# Altium schematic symbol library cellular.SchLib: 27 symbols
Pins are listed as number, name and electrical type; pins without a type are passive.

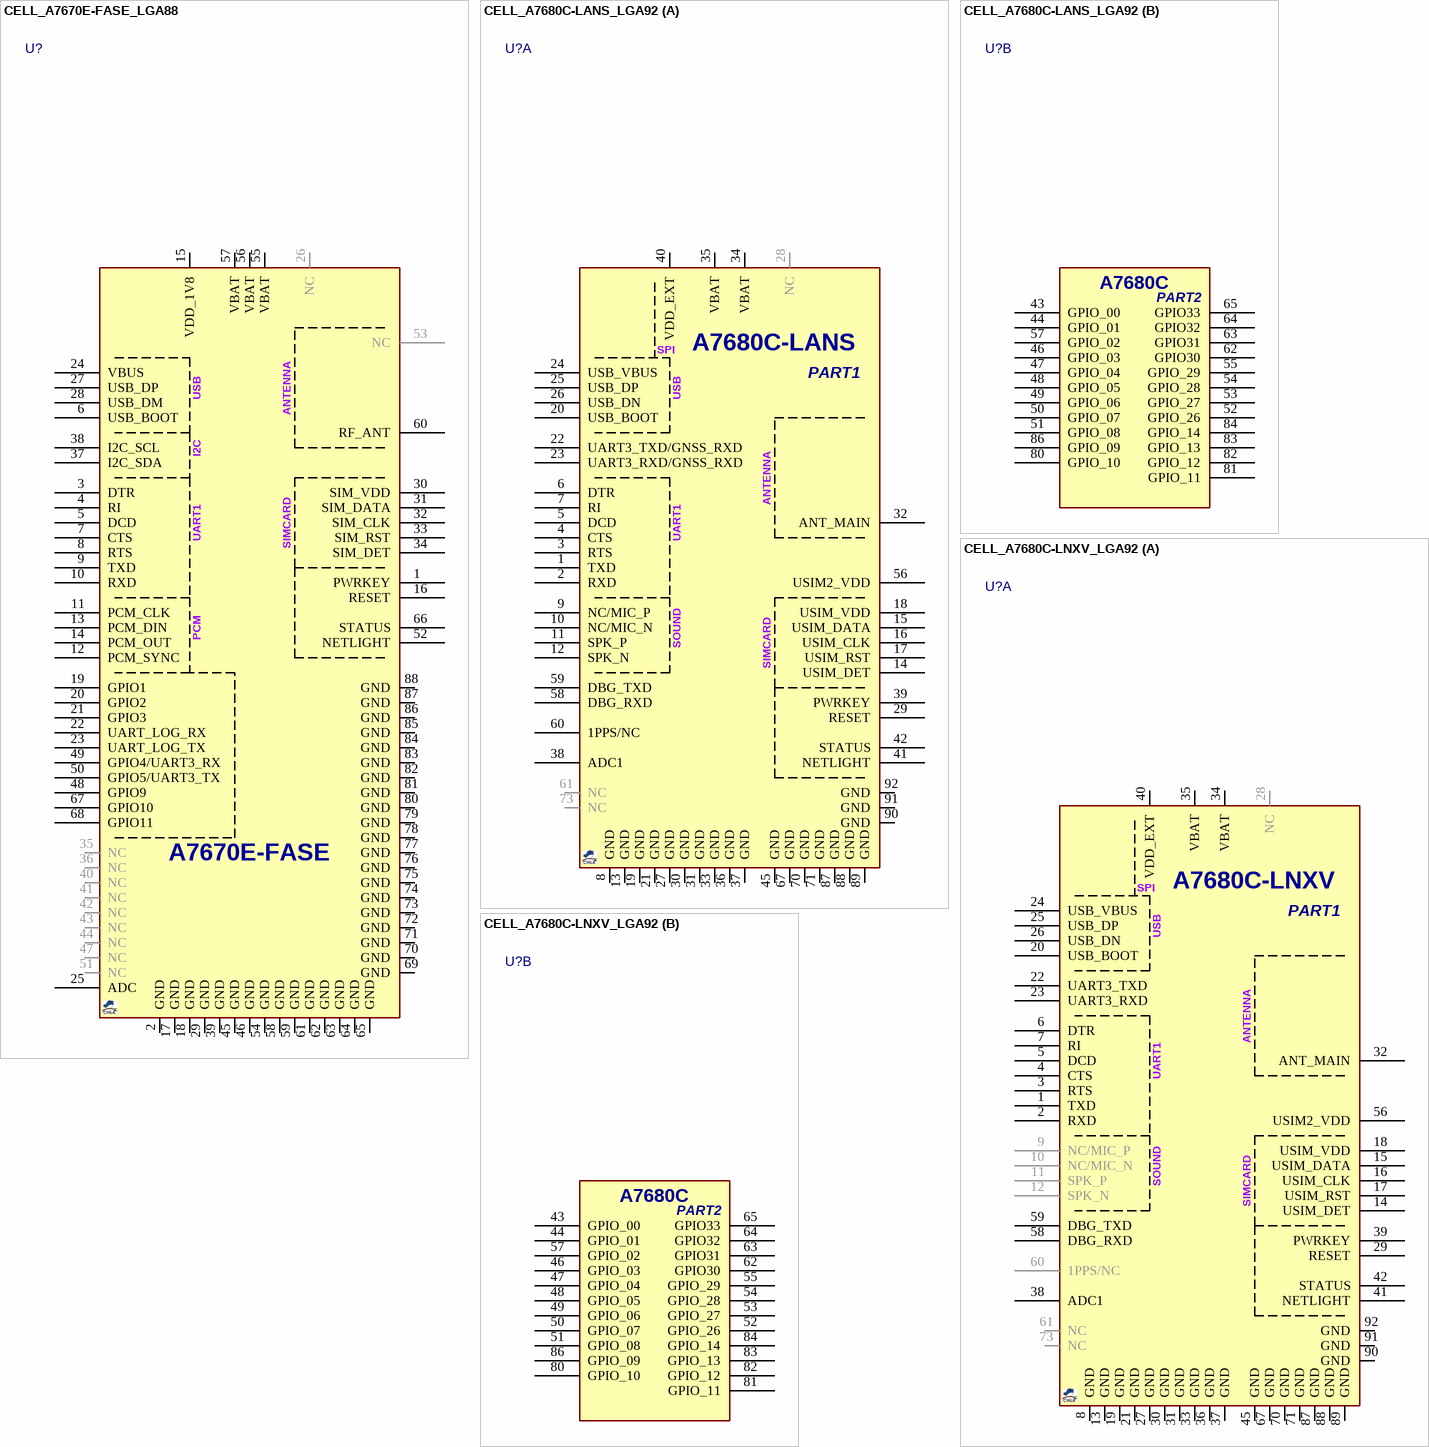
[diagram p0: symbols CELL_A7670E-FASE_LGA88 to CELL_A7680C-LNXV_LGA92]

## CELL_A7670E-FASE_LGA88
designator U?, comment A7670E-FASE  (value not drawn)
GSM, 850/900/1800/LTE, CAT1, UART/USB, 3.4~4.2V; MANF: SIMCom; PARAM2: 3.4~4.2VCC, 1.8/3VSIM; MANF_P#: A7670E-FASE; PARAM: GSM, 850/900/1800/LTE, CAT1, UART/USB; VALUE: A7670E-FASE; PACKAGE: LGA-88 24x24x3mm
footprint CELL_LGA88 (LGA-68+20, 24x24x3mm)
pins: 1 PWRKEY, 2 GND, 3 DTR, 4 RI, 5 DCD, 6 USB_BOOT, 7 CTS, 8 RTS, 9 TXD, 10 RXD, 11 PCM_CLK, 12 PCM_SYNC, 13 PCM_DIN, 14 PCM_OUT, 15 VDD_1V8, 16 RESET, 17 GND, 18 GND, 19 GPIO1, 20 GPIO2, 21 GPIO3, 22 UART_LOG_RX, 23 UART_LOG_TX, 24 VBUS, 25 ADC, 26 NC, 27 USB_DP, 28 USB_DM, 29 GND, 30 SIM_VDD, 31 SIM_DATA, 32 SIM_CLK, 33 SIM_RST, 34 SIM_DET, 35 NC, 36 NC, 37 I2C_SDA, 38 I2C_SCL, 39 GND, 40 NC, 41 NC, 42 NC, 43 NC, 44 NC, 45 GND, 46 GND, 47 NC, 48 GPIO9, 49 GPIO4/UART3_RX, 50 GPIO5/UART3_TX, 51 NC, 52 NETLIGHT, 53 NC, 54 GND, 55 VBAT, 56 VBAT, 57 VBAT, 58 GND, 59 GND, 60 RF_ANT, 61 GND, 62 GND, 63 GND, 64 GND, 65 GND, 66 STATUS, 67 GPIO10, 68 GPIO11, 69 GND, 70 GND, 71 GND, 72 GND, 73 GND, 74 GND, 75 GND, 76 GND, 77 GND, 78 GND, 79 GND, 80 GND, 81 GND, 82 GND, 83 GND, 84 GND, 85 GND, 86 GND, 87 GND, 88 GND
text: USB; ANTENNA; I2C; UART1; SIMCARD; PCM

## CELL_A7680C-LANS_LGA92
designator U?, comment A7680C  (value not drawn)
GSM, 850/900/1800/LTE, CAT1, UART/USB, 3.4~4.2V, LCC-42 + LGA-50; MANF: SIMCom; MANF_P#: A7680C-LANS; PARAM2: 3.4~4.2VCC, 1.8/3VSIM; PARAM: GSM, 850/900/1800/LTE, CAT1, UART/USB; VALUE: A7680C; PACKAGE: LGA-92 17.6x15.7x2.3mm
footprint CELL_LGA92_A7680C (LCC-42 17.6x15.7x2.3mm)
part A pins: 1 TXD, 2 RXD, 3 RTS, 4 CTS, 5 DCD, 6 DTR, 7 RI, 8 GND, 9 NC/MIC_P, 10 NC/MIC_N, 11 SPK_P, 12 SPK_N, 13 GND, 14 USIM_DET, 15 USIM_DATA, 16 USIM_CLK, 17 USIM_RST, 18 USIM_VDD, 19 GND, 20 USB_BOOT, 21 GND, 22 UART3_TXD/GNSS_RXD, 23 UART3_RXD/GNSS_RXD, 24 USB_VBUS, 25 USB_DP, 26 USB_DN, 27 GND, 28 NC, 29 RESET, 30 GND, 31 GND, 32 ANT_MAIN, 33 GND, 34 VBAT, 35 VBAT, 36 GND, 37 GND, 38 ADC1, 39 PWRKEY, 40 VDD_EXT, 41 NETLIGHT, 42 STATUS, 45 GND, 56 USIM2_VDD, 58 DBG_RXD, 59 DBG_TXD, 60 1PPS/NC, 61 NC, 67 GND, 70 GND, 71 GND, 73 NC, 87 GND, 88 GND, 89 GND, 90 GND, 91 GND, 92 GND
part B pins: 43 GPIO_00, 44 GPIO_01, 46 GPIO_03, 47 GPIO_04, 48 GPIO_05, 49 GPIO_06, 50 GPIO_07, 51 GPIO_08, 52 GPIO_26, 53 GPIO_27, 54 GPIO_28, 55 GPIO_29, 57 GPIO_02, 62 GPIO30, 63 GPIO31, 64 GPIO32, 65 GPIO33, 80 GPIO_10, 81 GPIO_11, 82 GPIO_12, 83 GPIO_13, 84 GPIO_14, 86 GPIO_09
part A text: SPI; PART1; USB; ANTENNA; UART1; SOUND; SIMCARD
part B text: PART2

## CELL_A7680C-LNXV_LGA92
designator U?, comment A7680C  (value not drawn)
GSM, 850/900/1800/LTE, CAT1, UART/USB, 3.4~4.2V, LCC-42 + LGA-50; MANF: SIMCom; MANF_P#: A7680C-LNXV; PARAM2: 3.4~4.2VCC, 1.8/3VSIM; PARAM: GSM, 850/900/1800/LTE, CAT1, UART/USB; VALUE: A7680C; PACKAGE: LGA-92 17.6x15.7x2.3mm
footprint CELL_LGA92_A7680C (LCC-42 17.6x15.7x2.3mm)
part A pins: 1 TXD, 2 RXD, 3 RTS, 4 CTS, 5 DCD, 6 DTR, 7 RI, 8 GND, 9 NC/MIC_P, 10 NC/MIC_N, 11 SPK_P, 12 SPK_N, 13 GND, 14 USIM_DET, 15 USIM_DATA, 16 USIM_CLK, 17 USIM_RST, 18 USIM_VDD, 19 GND, 20 USB_BOOT, 21 GND, 22 UART3_TXD, 23 UART3_RXD, 24 USB_VBUS, 25 USB_DP, 26 USB_DN, 27 GND, 28 NC, 29 RESET, 30 GND, 31 GND, 32 ANT_MAIN, 33 GND, 34 VBAT, 35 VBAT, 36 GND, 37 GND, 38 ADC1, 39 PWRKEY, 40 VDD_EXT, 41 NETLIGHT, 42 STATUS, 45 GND, 56 USIM2_VDD, 58 DBG_RXD, 59 DBG_TXD, 60 1PPS/NC, 61 NC, 67 GND, 70 GND, 71 GND, 73 NC, 87 GND, 88 GND, 89 GND, 90 GND, 91 GND, 92 GND
part B pins: 43 GPIO_00, 44 GPIO_01, 46 GPIO_03, 47 GPIO_04, 48 GPIO_05, 49 GPIO_06, 50 GPIO_07, 51 GPIO_08, 52 GPIO_26, 53 GPIO_27, 54 GPIO_28, 55 GPIO_29, 57 GPIO_02, 62 GPIO30, 63 GPIO31, 64 GPIO32, 65 GPIO33, 80 GPIO_10, 81 GPIO_11, 82 GPIO_12, 83 GPIO_13, 84 GPIO_14, 86 GPIO_09
part A text: SPI; PART1; USB; ANTENNA; UART1; SOUND; SIMCARD
part B text: PART2

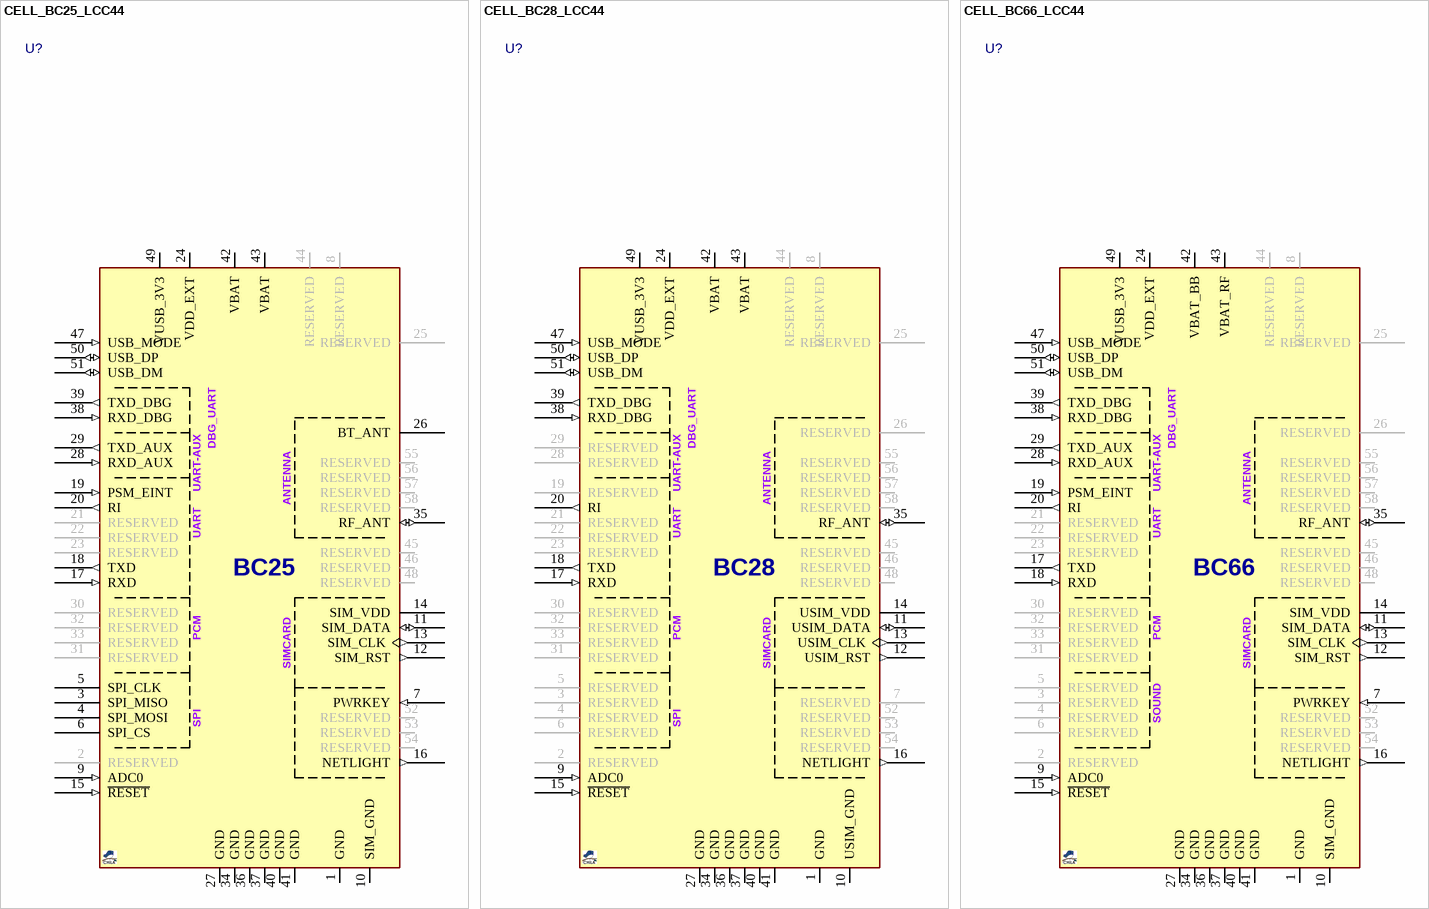
[diagram p1: symbols CELL_BC25_LCC44 to CELL_BC66_LCC44]

## CELL_BC25_LCC44
designator U?, comment BC25  (value not drawn)
NB-IoT, 3.2~4.2V; MANF: QUECTEL; MANF_P#: BC25; PARAM2: 3.2~4.2V; PARAM: NB-IoT; VALUE: BC25; PACKAGE: LCC-44 + 14LGA
footprint CELL_LCC44LGA14 (LCC-44 + LGA-14, 17.7x15.8x2.4mm)
pins: 1 GND (power), 2 RESERVED, 3 SPI_MISO, 4 SPI_MOSI, 5 SPI_CLK, 6 SPI_CS, 7 PWRKEY (in), 8 RESERVED, 9 ADC0 (in), 10 SIM_GND (power), 11 SIM_DATA (io), 12 SIM_RST (out), 13 SIM_CLK (out), 14 SIM_VDD (power), 15 ~{RESET} (in), 16 NETLIGHT (out), 17 RXD (in), 18 TXD (out), 19 PSM_EINT (in), 20 RI (out), 21 RESERVED, 22 RESERVED, 23 RESERVED, 24 VDD_EXT (power), 25 RESERVED, 26 BT_ANT, 27 GND (power), 28 RXD_AUX (in), 29 TXD_AUX (out), 30 RESERVED, 31 RESERVED, 32 RESERVED, 33 RESERVED, 34 GND (power), 35 RF_ANT (io), 36 GND (power), 37 GND (power), 38 RXD_DBG (in), 39 TXD_DBG (out), 40 GND (power), 41 GND (power), 42 VBAT (power), 43 VBAT (power), 44 RESERVED, 45 RESERVED, 46 RESERVED, 47 USB_MODE (in), 48 RESERVED, 49 VUSB_3V3 (power), 50 USB_DP (io), 51 USB_DM (io), 52 RESERVED, 53 RESERVED, 54 RESERVED, 55 RESERVED, 56 RESERVED, 57 RESERVED, 58 RESERVED
text: DBG_UART; UART-AUX; ANTENNA; UART; PCM; SIMCARD; SPI

## CELL_BC28_LCC44
designator U?, comment BC25  (value not drawn)
NB-IoT, 3.2~4.2V; MANF: QUECTEL; MANF_P#: BC25; PARAM2: 3.2~4.2V; PARAM: NB-IoT; VALUE: BC25; PACKAGE: LCC-44 + 14LGA
footprint CELL_LCC44LGA14 (LCC-44 + LGA-14, 17.7x15.8x2.4mm)
pins: 1 GND (power), 2 RESERVED, 3 RESERVED, 4 RESERVED, 5 RESERVED, 6 RESERVED, 7 RESERVED, 8 RESERVED, 9 ADC0 (in), 10 USIM_GND (power), 11 USIM_DATA (io), 12 USIM_RST (out), 13 USIM_CLK (out), 14 USIM_VDD (power), 15 ~{RESET} (in), 16 NETLIGHT (out), 17 RXD (in), 18 TXD (out), 19 RESERVED, 20 RI (out), 21 RESERVED, 22 RESERVED, 23 RESERVED, 24 VDD_EXT (power), 25 RESERVED, 26 RESERVED, 27 GND (power), 28 RESERVED, 29 RESERVED, 30 RESERVED, 31 RESERVED, 32 RESERVED, 33 RESERVED, 34 GND (power), 35 RF_ANT (io), 36 GND (power), 37 GND (power), 38 RXD_DBG (in), 39 TXD_DBG (out), 40 GND (power), 41 GND (power), 42 VBAT (power), 43 VBAT (power), 44 RESERVED, 45 RESERVED, 46 RESERVED, 47 USB_MODE (in), 48 RESERVED, 49 VUSB_3V3 (power), 50 USB_DP (io), 51 USB_DM (io), 52 RESERVED, 53 RESERVED, 54 RESERVED, 55 RESERVED, 56 RESERVED, 57 RESERVED, 58 RESERVED
text: DBG_UART; UART-AUX; ANTENNA; UART; BC28; PCM; SIMCARD; SPI

## CELL_BC66_LCC44
designator U?, comment BC66  (value not drawn)
NB-IoT, 3.3V; MANF: QUECTEL; MANF_P#: BC66; PARAM2: 3.3v; PARAM: NB-IoT; VALUE: BC66; PACKAGE: LCC-44 + 14LGA
footprint CELL_LCC44LGA14 (LCC-44 + LGA-14, 17.7x15.8x2.4mm)
pins: 1 GND (power), 2 RESERVED, 3 RESERVED, 4 RESERVED, 5 RESERVED, 6 RESERVED, 7 PWRKEY (in), 8 RESERVED, 9 ADC0 (in), 10 SIM_GND (power), 11 SIM_DATA (io), 12 SIM_RST (out), 13 SIM_CLK (out), 14 SIM_VDD (power), 15 ~{RESET} (in), 16 NETLIGHT (out), 17 TXD (out), 18 RXD (in), 19 PSM_EINT (in), 20 RI (out), 21 RESERVED, 22 RESERVED, 23 RESERVED, 24 VDD_EXT (power), 25 RESERVED, 26 RESERVED, 27 GND (power), 28 RXD_AUX (in), 29 TXD_AUX (out), 30 RESERVED, 31 RESERVED, 32 RESERVED, 33 RESERVED, 34 GND (power), 35 RF_ANT (io), 36 GND (power), 37 GND (power), 38 RXD_DBG (in), 39 TXD_DBG (out), 40 GND (power), 41 GND (power), 42 VBAT_BB (power), 43 VBAT_RF (power), 44 RESERVED, 45 RESERVED, 46 RESERVED, 47 USB_MODE (in), 48 RESERVED, 49 VUSB_3V3 (power), 50 USB_DP (io), 51 USB_DM (io), 52 RESERVED, 53 RESERVED, 54 RESERVED, 55 RESERVED, 56 RESERVED, 57 RESERVED, 58 RESERVED
text: DBG_UART; UART-AUX; ANTENNA; UART; PCM; SIMCARD; SOUND

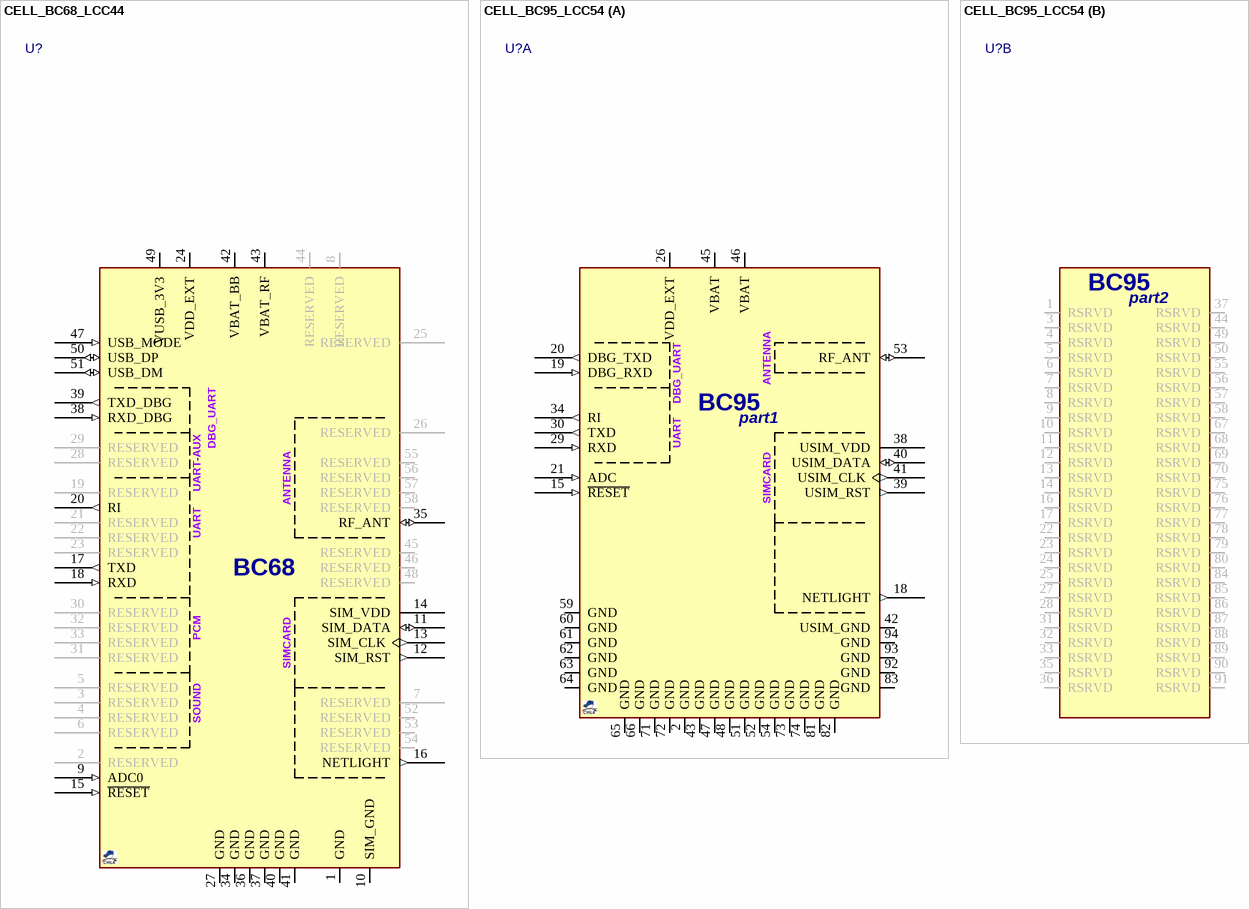
[diagram p2: symbols CELL_BC68_LCC44 to CELL_BC95_LCC54]

## CELL_BC68_LCC44
designator U?, comment BC68  (value not drawn)
NB-IoT, 3.3V; MANF: QUECTEL; MANF_P#: BC68; PARAM2: 3.3v; PARAM: NB-IoT; VALUE: BC68; PACKAGE: LCC-44 + 14LGA
footprint CELL_LCC44LGA14 (LCC-44 + LGA-14, 17.7x15.8x2.4mm)
pins: 1 GND (power), 2 RESERVED, 3 RESERVED, 4 RESERVED, 5 RESERVED, 6 RESERVED, 7 RESERVED, 8 RESERVED, 9 ADC0 (in), 10 SIM_GND (power), 11 SIM_DATA (io), 12 SIM_RST (out), 13 SIM_CLK (out), 14 SIM_VDD (power), 15 ~{RESET} (in), 16 NETLIGHT (out), 17 TXD (out), 18 RXD (in), 19 RESERVED, 20 RI (out), 21 RESERVED, 22 RESERVED, 23 RESERVED, 24 VDD_EXT (power), 25 RESERVED, 26 RESERVED, 27 GND (power), 28 RESERVED, 29 RESERVED, 30 RESERVED, 31 RESERVED, 32 RESERVED, 33 RESERVED, 34 GND (power), 35 RF_ANT (io), 36 GND (power), 37 GND (power), 38 RXD_DBG (in), 39 TXD_DBG (out), 40 GND (power), 41 GND (power), 42 VBAT_BB (power), 43 VBAT_RF (power), 44 RESERVED, 45 RESERVED, 46 RESERVED, 47 USB_MODE (in), 48 RESERVED, 49 VUSB_3V3 (power), 50 USB_DP (io), 51 USB_DM (io), 52 RESERVED, 53 RESERVED, 54 RESERVED, 55 RESERVED, 56 RESERVED, 57 RESERVED, 58 RESERVED
text: DBG_UART; UART-AUX; ANTENNA; UART; PCM; SIMCARD; SOUND

## CELL_BC95_LCC54
designator U?, comment BC95  (value not drawn)
NB-IoT, 3.1~4.2V; MANF: QUECTEL; MANF_P#: BC95; PARAM2: 3.1~4.2V; PARAM: NB-IoT; VALUE: BC95; PACKAGE: LCC-54 + 40LGA
footprint CELL_LCC54LGA40 (LCC-44 + LGA-14, 23.6x19.9x2.2mm)
part A pins: 2 GND (power), 15 ~{RESET} (in), 18 NETLIGHT (out), 19 DBG_RXD (in), 20 DBG_TXD (out), 21 ADC (in), 26 VDD_EXT (power), 29 RXD (in), 30 TXD (out), 34 RI (out), 38 USIM_VDD (power), 39 USIM_RST (out), 40 USIM_DATA (io), 41 USIM_CLK (out), 42 USIM_GND (power), 43 GND (power), 45 VBAT (power), 46 VBAT (power), 47 GND (power), 48 GND (power), 51 GND (power), 52 GND (power), 53 RF_ANT (io), 54 GND (power), 59 GND (power), 60 GND (power), 61 GND (power), 62 GND (power), 63 GND (power), 64 GND (power), 65 GND (power), 66 GND (power), 71 GND (power), 72 GND (power), 73 GND (power), 74 GND (power), 81 GND (power), 82 GND (power), 83 GND (power), 92 GND (power), 93 GND (power), 94 GND (power)
part B pins: 1 RSRVD, 3 RSRVD, 4 RSRVD, 5 RSRVD, 6 RSRVD, 7 RSRVD, 8 RSRVD, 9 RSRVD, 10 RSRVD, 11 RSRVD, 12 RSRVD, 13 RSRVD, 14 RSRVD, 16 RSRVD, 17 RSRVD, 22 RSRVD, 23 RSRVD, 24 RSRVD, 25 RSRVD, 27 RSRVD, 28 RSRVD, 31 RSRVD, 32 RSRVD, 33 RSRVD, 35 RSRVD, 36 RSRVD, 37 RSRVD, 44 RSRVD, 49 RSRVD, 50 RSRVD, 55 RSRVD, 56 RSRVD, 57 RSRVD, 58 RSRVD, 67 RSRVD, 68 RSRVD, 69 RSRVD, 70 RSRVD, 75 RSRVD, 76 RSRVD, 77 RSRVD, 78 RSRVD, 79 RSRVD, 80 RSRVD, 84 RSRVD, 85 RSRVD, 86 RSRVD, 87 RSRVD, 88 RSRVD, 89 RSRVD, 90 RSRVD, 91 RSRVD
part A text: ANTENNA; DBG_UART; part1; UART; SIMCARD
part B text: part2

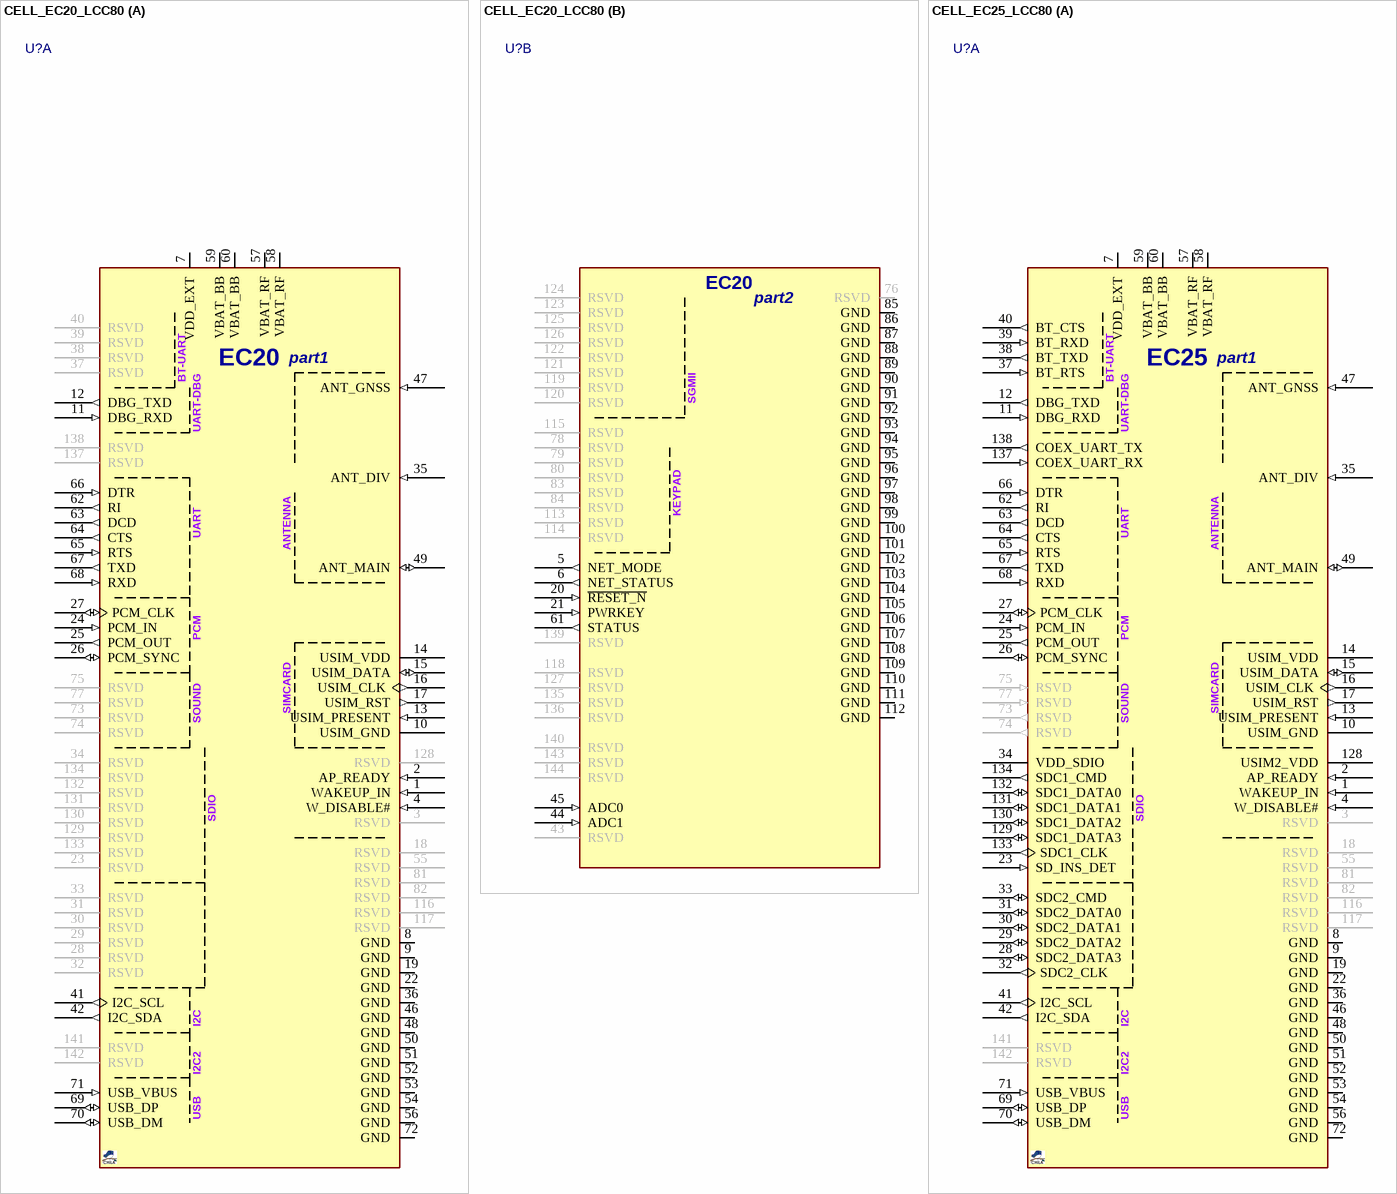
[diagram p3: symbols CELL_EC20_LCC80 to CELL_EC25_LCC80]

## CELL_EC20_LCC80
designator U?, comment EC20  (value not drawn)
LTE, GSM, GNSS, CAT3 (100Mbps), 3.3~4.3V; MANF: QUECTEL; PARAM: LTE, GSM, GNSS, CAT4 (100Mbps); MANF_P#: EC20; PARAM2: 3.3~4.3V; VALUE: EC20; PACKAGE: LCC80 + LGA64
footprint CELL_LCC80LGA64_EC25 (LCC-80 + LGA-64 32x29x2.4mm)
part A pins: 1 WAKEUP_IN (in), 2 AP_READY (in), 3 RSVD, 4 W_DISABLE# (in), 7 VDD_EXT (power), 8 GND (power), 9 GND (power), 10 USIM_GND (power), 11 DBG_RXD (in), 12 DBG_TXD (out), 13 USIM_PRESENT (in), 14 USIM_VDD (power), 15 USIM_DATA (io), 16 USIM_CLK (out), 17 USIM_RST (out), 18 RSVD, 19 GND (power), 22 GND (power), 23 RSVD, 24 PCM_IN (in), 25 PCM_OUT (out), 26 PCM_SYNC (io), 27 PCM_CLK (io), 28 RSVD, 29 RSVD, 30 RSVD, 31 RSVD, 32 RSVD, 33 RSVD, 34 RSVD, 35 ANT_DIV (in), 36 GND (power), 37 RSVD, 38 RSVD, 39 RSVD, 40 RSVD, 41 I2C_SCL (out), 42 I2C_SDA (out), 46 GND (power), 47 ANT_GNSS (in), 48 GND (power), 49 ANT_MAIN (io), 50 GND (power), 51 GND (power), 52 GND (power), 53 GND (power), 54 GND (power), 55 RSVD, 56 GND (power), 57 VBAT_RF (power), 58 VBAT_RF (power), 59 VBAT_BB (power), 60 VBAT_BB (power), 62 RI (out), 63 DCD (out), 64 CTS (out), 65 RTS (in), 66 DTR (in), 67 TXD (out), 68 RXD (in), 69 USB_DP (io), 70 USB_DM (io), 71 USB_VBUS (in), 72 GND (power), 73 RSVD, 74 RSVD, 75 RSVD, 77 RSVD, 81 RSVD, 82 RSVD, 116 RSVD, 117 RSVD, 128 RSVD, 129 RSVD, 130 RSVD, 131 RSVD, 132 RSVD, 133 RSVD, 134 RSVD, 137 RSVD, 138 RSVD, 141 RSVD, 142 RSVD
part B pins: 5 NET_MODE (out), 6 NET_STATUS (out), 20 ~{RESET_N} (in), 21 PWRKEY (in), 43 RSVD, 44 ADC1 (in), 45 ADC0 (in), 61 STATUS (out), 76 RSVD, 78 RSVD, 79 RSVD, 80 RSVD, 83 RSVD, 84 RSVD, 85 GND (power), 86 GND (power), 87 GND (power), 88 GND (power), 89 GND (power), 90 GND (power), 91 GND (power), 92 GND (power), 93 GND (power), 94 GND (power), 95 GND (power), 96 GND (power), 97 GND (power), 98 GND (power), 99 GND (power), 100 GND (power), 101 GND (power), 102 GND (power), 103 GND (power), 104 GND (power), 105 GND (power), 106 GND (power), 107 GND (power), 108 GND (power), 109 GND (power), 110 GND (power), 111 GND (power), 112 GND (power), 113 RSVD, 114 RSVD, 115 RSVD, 118 RSVD, 119 RSVD, 120 RSVD, 121 RSVD, 122 RSVD, 123 RSVD, 124 RSVD, 125 RSVD, 126 RSVD, 127 RSVD, 135 RSVD, 136 RSVD, 139 RSVD, 140 RSVD, 143 RSVD, 144 RSVD
part A text: BT-UART; part1; UART-DBG; UART; ANTENNA; PCM; SIMCARD; SOUND; SDIO; I2C; I2C2; USB
part B text: part2; SGMII; KEYPAD

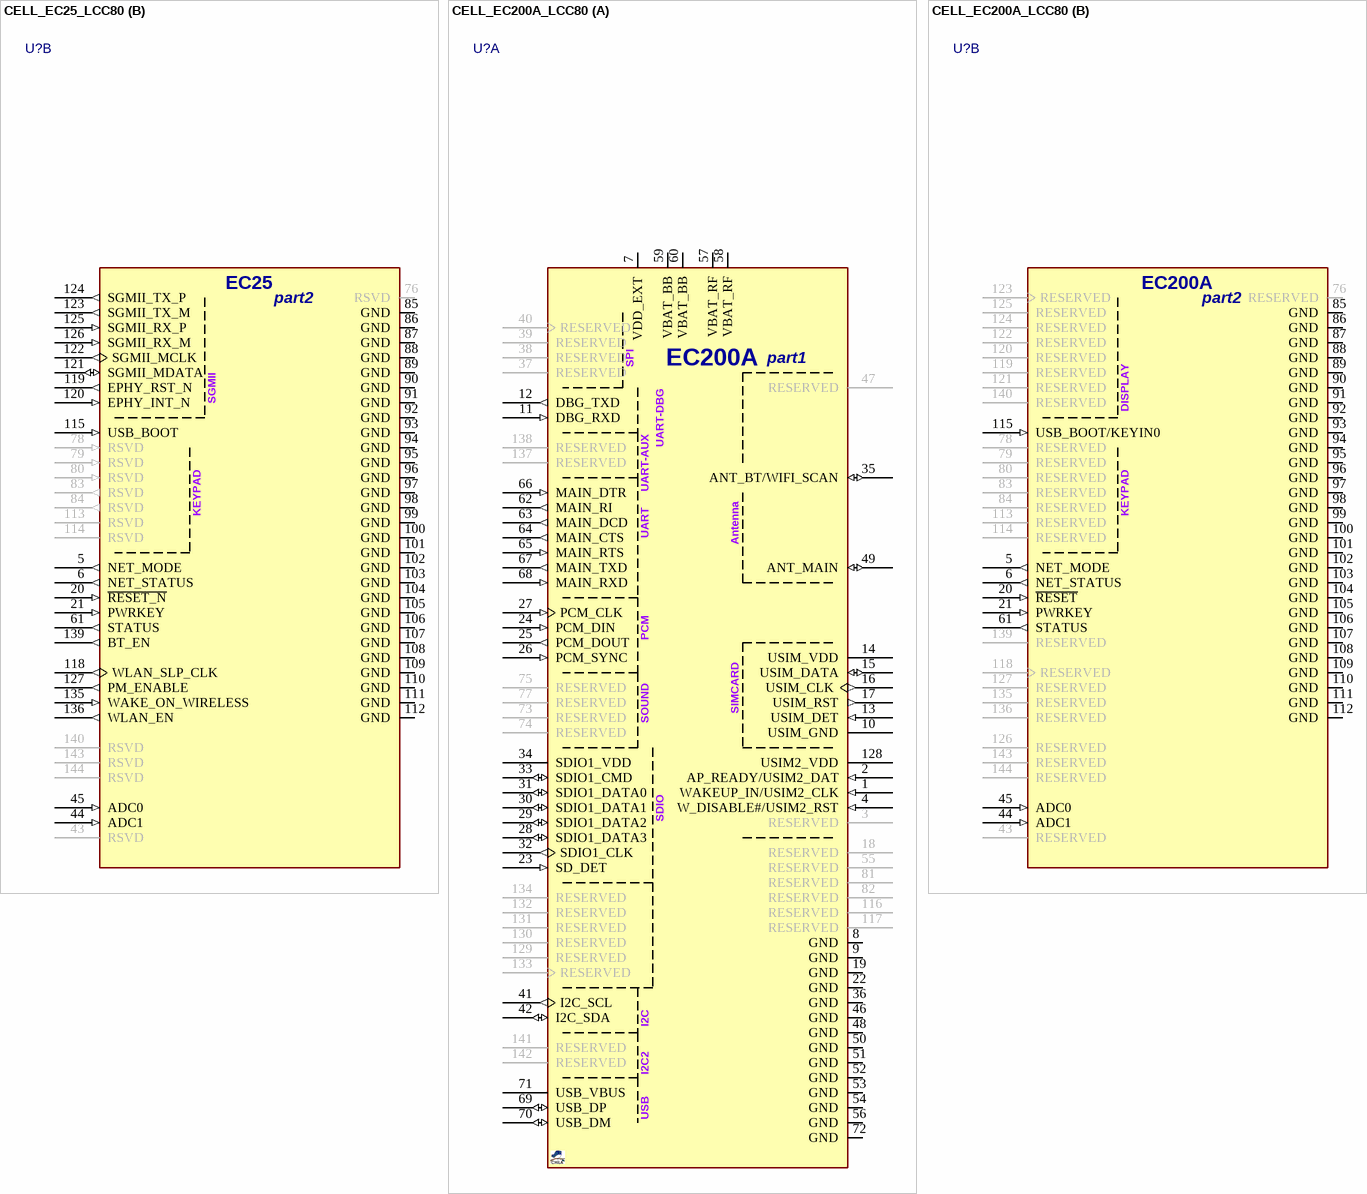
[diagram p4: symbols CELL_EC25_LCC80 to CELL_EC200A_LCC80]

## CELL_EC25_LCC80
designator U?, comment EC25  (value not drawn)
LTE, GSM, GNSS, CAT4 (150Mbps), 3.3~4.3V; MANF: QUECTEL; MANF_P#: EC25; PARAM2: 3.3~4.3V; PARAM: LTE, GSM, GNSS, CAT4 (150Mbps); VALUE: EC25; PACKAGE: LCC80 + LGA64
footprint CELL_LCC80LGA64_EC25 (LCC-80 + LGA-64 32x29x2.4mm)
part A pins: 1 WAKEUP_IN (in), 2 AP_READY (in), 3 RSVD, 4 W_DISABLE# (in), 7 VDD_EXT (power), 8 GND (power), 9 GND (power), 10 USIM_GND (power), 11 DBG_RXD (in), 12 DBG_TXD (out), 13 USIM_PRESENT (in), 14 USIM_VDD (power), 15 USIM_DATA (io), 16 USIM_CLK (out), 17 USIM_RST (out), 18 RSVD, 19 GND (power), 22 GND (power), 23 SD_INS_DET (in), 24 PCM_IN (in), 25 PCM_OUT (out), 26 PCM_SYNC (io), 27 PCM_CLK (io), 28 SDC2_DATA3 (io), 29 SDC2_DATA2 (io), 30 SDC2_DATA1 (io), 31 SDC2_DATA0 (io), 32 SDC2_CLK (out), 33 SDC2_CMD (io), 34 VDD_SDIO (power), 35 ANT_DIV (in), 36 GND (power), 37 BT_RTS (in), 38 BT_TXD (out), 39 BT_RXD (in), 40 BT_CTS (out), 41 I2C_SCL (out), 42 I2C_SDA (out), 46 GND (power), 47 ANT_GNSS (in), 48 GND (power), 49 ANT_MAIN (io), 50 GND (power), 51 GND (power), 52 GND (power), 53 GND (power), 54 GND (power), 55 RSVD, 56 GND (power), 57 VBAT_RF (power), 58 VBAT_RF (power), 59 VBAT_BB (power), 60 VBAT_BB (power), 62 RI (out), 63 DCD (out), 64 CTS (out), 65 RTS (in), 66 DTR (in), 67 TXD (out), 68 RXD (in), 69 USB_DP (io), 70 USB_DM (io), 71 USB_VBUS (in), 72 GND (power), 73 RSVD (out), 74 RSVD (out), 75 RSVD (in), 77 RSVD (in), 81 RSVD, 82 RSVD, 116 RSVD, 117 RSVD, 128 USIM2_VDD (power), 129 SDC1_DATA3 (io), 130 SDC1_DATA2 (io), 131 SDC1_DATA1 (io), 132 SDC1_DATA0 (io), 133 SDC1_CLK (out), 134 SDC1_CMD (out), 137 COEX_UART_RX (in), 138 COEX_UART_TX (out), 141 RSVD, 142 RSVD
part B pins: 5 NET_MODE (out), 6 NET_STATUS (out), 20 ~{RESET_N} (in), 21 PWRKEY (in), 43 RSVD, 44 ADC1 (in), 45 ADC0 (in), 61 STATUS (out), 76 RSVD (power), 78 RSVD (in), 79 RSVD (in), 80 RSVD (in), 83 RSVD (out), 84 RSVD (out), 85 GND (power), 86 GND (power), 87 GND (power), 88 GND (power), 89 GND (power), 90 GND (power), 91 GND (power), 92 GND (power), 93 GND (power), 94 GND (power), 95 GND (power), 96 GND (power), 97 GND (power), 98 GND (power), 99 GND (power), 100 GND (power), 101 GND (power), 102 GND (power), 103 GND (power), 104 GND (power), 105 GND (power), 106 GND (power), 107 GND (power), 108 GND (power), 109 GND (power), 110 GND (power), 111 GND (power), 112 GND (power), 113 RSVD, 114 RSVD, 115 USB_BOOT (in), 118 WLAN_SLP_CLK (out), 119 EPHY_RST_N (out), 120 EPHY_INT_N (in), 121 SGMII_MDATA (io), 122 SGMII_MCLK (out), 123 SGMII_TX_M (out), 124 SGMII_TX_P (out), 125 SGMII_RX_P (in), 126 SGMII_RX_M (in), 127 PM_ENABLE (out), 135 WAKE_ON_WIRELESS (in), 136 WLAN_EN (out), 139 BT_EN (out), 140 RSVD, 143 RSVD, 144 RSVD
part A text: BT-UART; part1; UART-DBG; UART; ANTENNA; PCM; SIMCARD; SOUND; SDIO; I2C; I2C2; USB
part B text: part2; SGMII; KEYPAD

## CELL_EC200A_LCC80
designator U?, comment EC200A  (value not drawn)
LTE, GSM, GNSS, CAT4 (150Mbps), 3.3~4.3V; MANF: QUECTEL; MANF_P#: EC200A; PARAM2: 3.3~4.3V; PARAM: LTE, GSM, GNSS, CAT4 (150Mbps); VALUE: EC200A; PACKAGE: LCC80 + LGA64
footprint CELL_LCC80LGA64 (LCC-80 + LGA-64 31x28x2.4mm)
part A pins: 1 WAKEUP_IN/USIM2_CLK (in), 2 AP_READY/USIM2_DAT (in), 3 RESERVED, 4 W_DISABLE#/USIM2_RST (in), 7 VDD_EXT (power), 8 GND (power), 9 GND (power), 10 USIM_GND (power), 11 DBG_RXD (in), 12 DBG_TXD (out), 13 USIM_DET (in), 14 USIM_VDD (power), 15 USIM_DATA (io), 16 USIM_CLK (out), 17 USIM_RST (out), 18 RESERVED, 19 GND (power), 22 GND (power), 23 SD_DET (in), 24 PCM_DIN (in), 25 PCM_DOUT (out), 26 PCM_SYNC (in), 27 PCM_CLK (in), 28 SDIO1_DATA3 (io), 29 SDIO1_DATA2 (io), 30 SDIO1_DATA1 (io), 31 SDIO1_DATA0 (io), 32 SDIO1_CLK (out), 33 SDIO1_CMD (io), 34 SDIO1_VDD (power), 35 ANT_BT/WIFI_SCAN (io), 36 GND (power), 37 RESERVED, 38 RESERVED, 39 RESERVED, 40 RESERVED, 41 I2C_SCL (out), 42 I2C_SDA (io), 46 GND (power), 47 RESERVED, 48 GND (power), 49 ANT_MAIN (io), 50 GND (power), 51 GND (power), 52 GND (power), 53 GND (power), 54 GND (power), 55 RESERVED, 56 GND (power), 57 VBAT_RF (power), 58 VBAT_RF (power), 59 VBAT_BB (power), 60 VBAT_BB (power), 62 MAIN_RI (out), 63 MAIN_DCD (out), 64 MAIN_CTS (out), 65 MAIN_RTS (in), 66 MAIN_DTR (in), 67 MAIN_TXD (out), 68 MAIN_RXD (in), 69 USB_DP (io), 70 USB_DM (io), 71 USB_VBUS (power), 72 GND (power), 73 RESERVED, 74 RESERVED, 75 RESERVED, 77 RESERVED, 81 RESERVED, 82 RESERVED, 116 RESERVED, 117 RESERVED, 128 USIM2_VDD (power), 129 RESERVED, 130 RESERVED, 131 RESERVED, 132 RESERVED, 133 RESERVED, 134 RESERVED, 137 RESERVED, 138 RESERVED, 141 RESERVED, 142 RESERVED
part B pins: 5 NET_MODE (out), 6 NET_STATUS (out), 20 ~{RESET} (in), 21 PWRKEY (in), 43 RESERVED, 44 ADC1 (in), 45 ADC0 (in), 61 STATUS (out), 76 RESERVED, 78 RESERVED, 79 RESERVED, 80 RESERVED, 83 RESERVED, 84 RESERVED, 85 GND (power), 86 GND (power), 87 GND (power), 88 GND (power), 89 GND (power), 90 GND (power), 91 GND (power), 92 GND (power), 93 GND (power), 94 GND (power), 95 GND (power), 96 GND (power), 97 GND (power), 98 GND (power), 99 GND (power), 100 GND (power), 101 GND (power), 102 GND (power), 103 GND (power), 104 GND (power), 105 GND (power), 106 GND (power), 107 GND (power), 108 GND (power), 109 GND (power), 110 GND (power), 111 GND (power), 112 GND (power), 113 RESERVED, 114 RESERVED, 115 USB_BOOT/KEYIN0 (in), 118 RESERVED, 119 RESERVED, 120 RESERVED, 121 RESERVED, 122 RESERVED, 123 RESERVED, 124 RESERVED, 125 RESERVED, 126 RESERVED, 127 RESERVED, 135 RESERVED, 136 RESERVED, 139 RESERVED, 140 RESERVED, 143 RESERVED, 144 RESERVED
part A text: SPI; part1; UART-DBG; UART-AUX; UART; Antenna; PCM; SIMCARD; SOUND; SDIO; I2C; I2C2; USB
part B text: part2; DISPLAY; KEYPAD

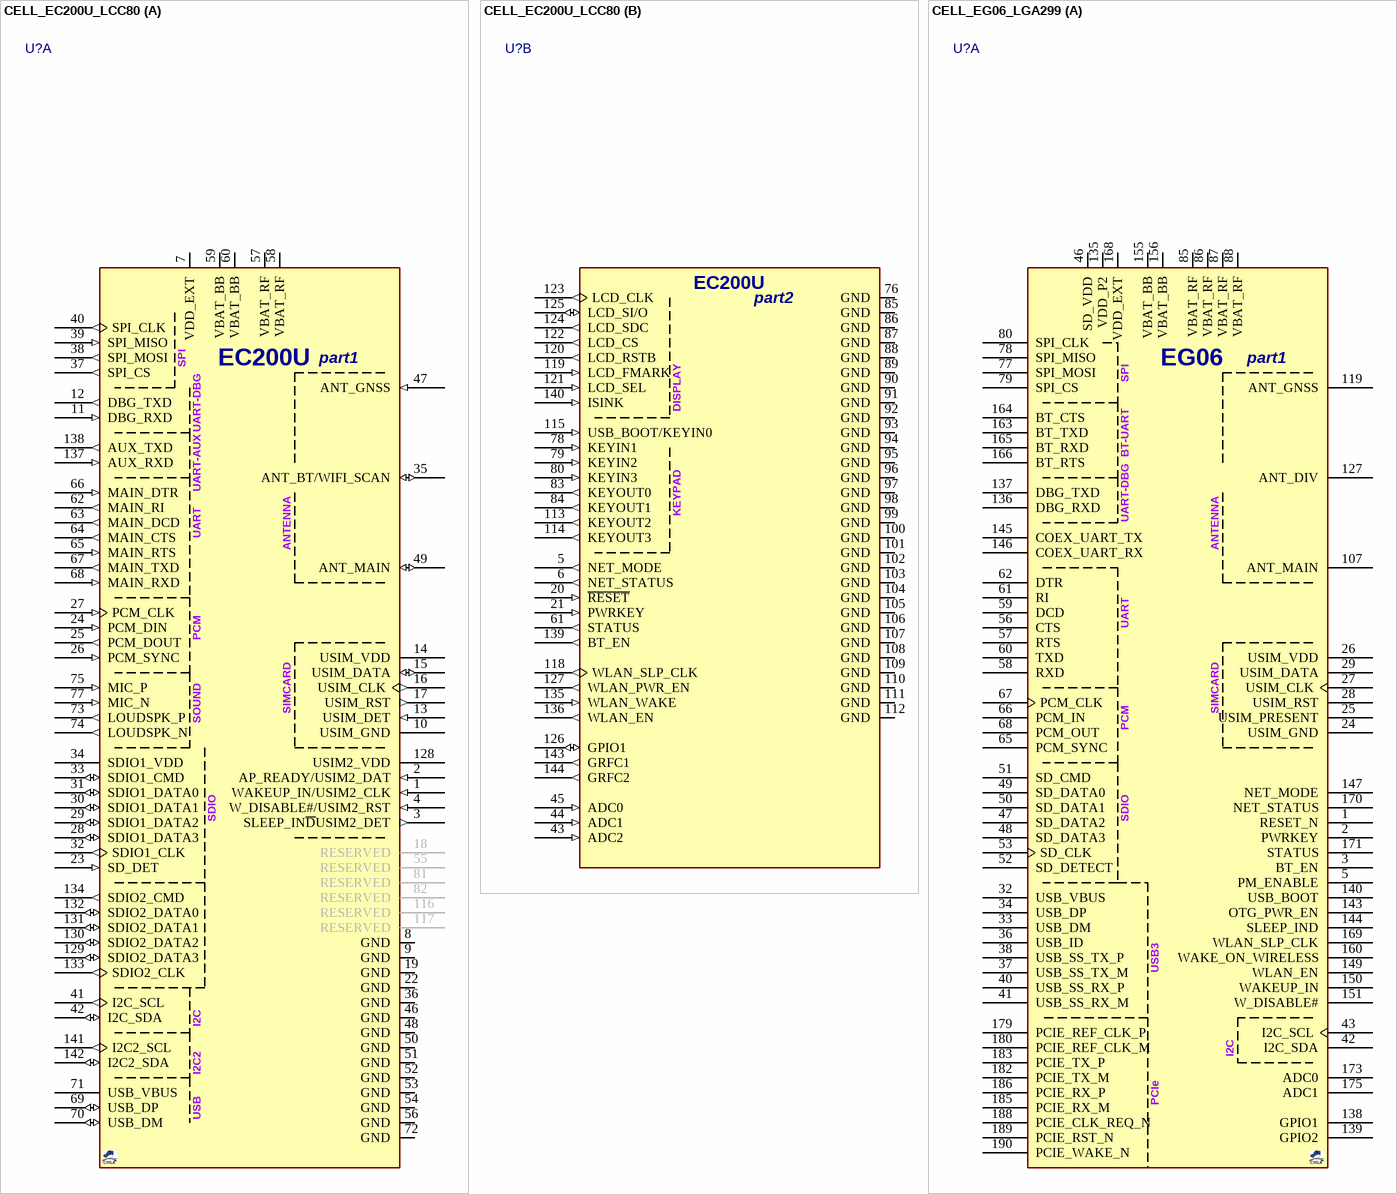
[diagram p5: symbols CELL_EC200U_LCC80 to CELL_EG06_LGA299]

## CELL_EC200U_LCC80
designator U?, comment EC200U  (value not drawn)
LTE, GSM, GNSS, CAT1 (10Mbps), 3.3~4.3V; MANF: QUECTEL; MANF_P#: EC200U; PARAM2: 3.3~4.3V; PARAM: LTE, GSM, GNSS, CAT1 (10Mbps); VALUE: EC200U; PACKAGE: LCC80 + LGA64
footprint CELL_LCC80LGA64 (LCC-80 + LGA-64 31x28x2.4mm)
part A pins: 1 WAKEUP_IN/USIM2_CLK (in), 2 AP_READY/USIM2_DAT (in), 3 SLEEP_IN~{D}USIM2_DET (out), 4 W_DISABLE#/USIM2_RST (in), 7 VDD_EXT (power), 8 GND (power), 9 GND (power), 10 USIM_GND (power), 11 DBG_RXD (in), 12 DBG_TXD (out), 13 USIM_DET (in), 14 USIM_VDD (power), 15 USIM_DATA (io), 16 USIM_CLK (out), 17 USIM_RST (out), 18 RESERVED, 19 GND (power), 22 GND (power), 23 SD_DET (in), 24 PCM_DIN (in), 25 PCM_DOUT (out), 26 PCM_SYNC (in), 27 PCM_CLK (in), 28 SDIO1_DATA3 (io), 29 SDIO1_DATA2 (io), 30 SDIO1_DATA1 (io), 31 SDIO1_DATA0 (io), 32 SDIO1_CLK (out), 33 SDIO1_CMD (io), 34 SDIO1_VDD (power), 35 ANT_BT/WIFI_SCAN (io), 36 GND (power), 37 SPI_CS (out), 38 SPI_MOSI (out), 39 SPI_MISO (in), 40 SPI_CLK (out), 41 I2C_SCL (out), 42 I2C_SDA (io), 46 GND (power), 47 ANT_GNSS (in), 48 GND (power), 49 ANT_MAIN (io), 50 GND (power), 51 GND (power), 52 GND (power), 53 GND (power), 54 GND (power), 55 RESERVED, 56 GND (power), 57 VBAT_RF (power), 58 VBAT_RF (power), 59 VBAT_BB (power), 60 VBAT_BB (power), 62 MAIN_RI (out), 63 MAIN_DCD (out), 64 MAIN_CTS (out), 65 MAIN_RTS (in), 66 MAIN_DTR (in), 67 MAIN_TXD (out), 68 MAIN_RXD (in), 69 USB_DP (io), 70 USB_DM (io), 71 USB_VBUS (power), 72 GND (power), 73 LOUDSPK_P (out), 74 LOUDSPK_N (out), 75 MIC_P (in), 77 MIC_N (in), 81 RESERVED, 82 RESERVED, 116 RESERVED, 117 RESERVED, 128 USIM2_VDD (power), 129 SDIO2_DATA3 (io), 130 SDIO2_DATA2 (io), 131 SDIO2_DATA1 (io), 132 SDIO2_DATA0 (io), 133 SDIO2_CLK (out), 134 SDIO2_CMD (out), 137 AUX_RXD (in), 138 AUX_TXD (out), 141 I2C2_SCL (out), 142 I2C2_SDA (io)
part B pins: 5 NET_MODE (out), 6 NET_STATUS (out), 20 ~{RESET} (in), 21 PWRKEY (in), 43 ADC2 (in), 44 ADC1 (in), 45 ADC0 (in), 61 STATUS (out), 76 GND (power), 78 KEYIN1 (in), 79 KEYIN2 (in), 80 KEYIN3 (in), 83 KEYOUT0 (out), 84 KEYOUT1 (out), 85 GND (power), 86 GND (power), 87 GND (power), 88 GND (power), 89 GND (power), 90 GND (power), 91 GND (power), 92 GND (power), 93 GND (power), 94 GND (power), 95 GND (power), 96 GND (power), 97 GND (power), 98 GND (power), 99 GND (power), 100 GND (power), 101 GND (power), 102 GND (power), 103 GND (power), 104 GND (power), 105 GND (power), 106 GND (power), 107 GND (power), 108 GND (power), 109 GND (power), 110 GND (power), 111 GND (power), 112 GND (power), 113 KEYOUT2 (out), 114 KEYOUT3 (out), 115 USB_BOOT/KEYIN0 (in), 118 WLAN_SLP_CLK (out), 119 LCD_FMARK (in), 120 LCD_RSTB (out), 121 LCD_SEL (in), 122 LCD_CS (out), 123 LCD_CLK (out), 124 LCD_SDC (out), 125 LCD_SI/O (io), 126 GPIO1 (io), 127 WLAN_PWR_EN (out), 135 WLAN_WAKE (in), 136 WLAN_EN (out), 139 BT_EN (out), 140 ISINK (in), 143 GRFC1 (out), 144 GRFC2 (out)
part A text: SPI; part1; UART-DBG; UART-AUX; UART; ANTENNA; PCM; SIMCARD; SOUND; SDIO; I2C; I2C2; USB
part B text: part2; DISPLAY; KEYPAD

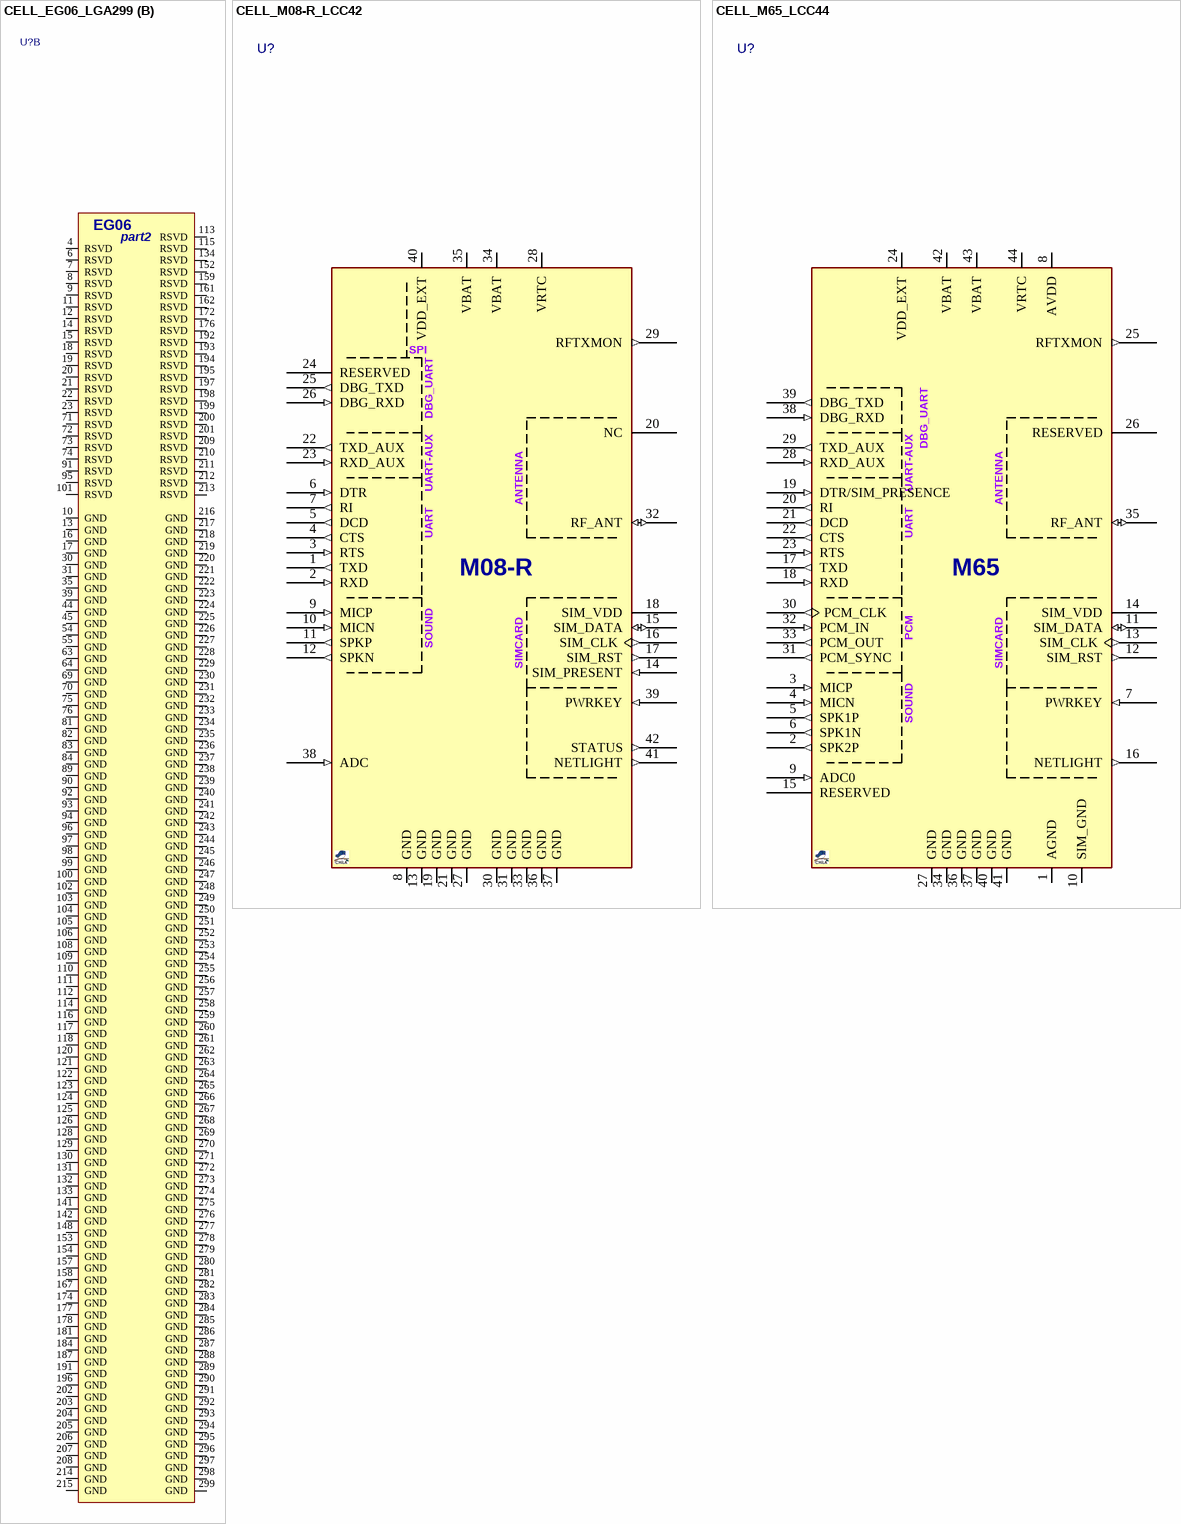
[diagram p6: symbols CELL_EG06_LGA299 to CELL_M65_LCC44]

## CELL_EG06_LGA299
designator U?, comment EG06  (value not drawn)
LTE-A CAT6 (300Mbps), 3.3~4.3V; MANF: QUECTEL; MANF_P#: EG06; PARAM2: 3.3~4.3V; PARAM: LTE-A CAT6 (300Mbps); VALUE: EG06; PACKAGE: LGA-299
footprint CELL_LGA299 (LGA-299 39.5x37x2.8mm)
part A pins: 1 RESET_N, 2 PWRKEY, 3 BT_EN, 5 PM_ENABLE, 24 USIM_GND, 25 USIM_PRESENT, 26 USIM_VDD, 27 USIM_CLK, 28 USIM_RST, 29 USIM_DATA, 32 USB_VBUS, 33 USB_DM, 34 USB_DP, 36 USB_ID, 37 USB_SS_TX_M, 38 USB_SS_TX_P, 40 USB_SS_RX_P, 41 USB_SS_RX_M, 42 I2C_SDA, 43 I2C_SCL, 46 SD_VDD, 47 SD_DATA2, 48 SD_DATA3, 49 SD_DATA0, 50 SD_DATA1, 51 SD_CMD, 52 SD_DETECT, 53 SD_CLK, 56 CTS, 57 RTS, 58 RXD, 59 DCD, 60 TXD, 61 RI, 62 DTR, 65 PCM_SYNC, 66 PCM_IN, 67 PCM_CLK, 68 PCM_OUT, 77 SPI_MOSI, 78 SPI_MISO, 79 SPI_CS, 80 SPI_CLK, 85 VBAT_RF, 86 VBAT_RF, 87 VBAT_RF, 88 VBAT_RF, 107 ANT_MAIN, 119 ANT_GNSS, 127 ANT_DIV, 135 VDD_P2, 136 DBG_RXD, 137 DBG_TXD, 138 GPIO1, 139 GPIO2, 140 USB_BOOT, 143 OTG_PWR_EN, 144 SLEEP_IND, 145 COEX_UART_TX, 146 COEX_UART_RX, 147 NET_MODE, 149 WLAN_EN, 150 WAKEUP_IN, 151 W_DISABLE#, 155 VBAT_BB, 156 VBAT_BB, 160 WAKE_ON_WIRELESS, 163 BT_TXD, 164 BT_CTS, 165 BT_RXD, 166 BT_RTS, 168 VDD_EXT, 169 WLAN_SLP_CLK, 170 NET_STATUS, 171 STATUS, 173 ADC0, 175 ADC1, 179 PCIE_REF_CLK_P, 180 PCIE_REF_CLK_M, 182 PCIE_TX_M, 183 PCIE_TX_P, 185 PCIE_RX_M, 186 PCIE_RX_P, 188 PCIE_CLK_REQ_N, 189 PCIE_RST_N, 190 PCIE_WAKE_N
part B pins: 4 RSVD, 6 RSVD, 7 RSVD, 8 RSVD, 9 RSVD, 10 GND, 11 RSVD, 12 RSVD, 13 GND, 14 RSVD, 15 RSVD, 16 GND, 17 GND, 18 RSVD, 19 RSVD, 20 RSVD, 21 RSVD, 22 RSVD, 23 RSVD, 30 GND, 31 GND, 35 GND, 39 GND, 44 GND, 45 GND, 54 GND, 55 GND, 63 GND, 64 GND, 69 GND, 70 GND, 71 RSVD, 72 RSVD, 73 RSVD, 74 RSVD, 75 GND, 76 GND, 81 GND, 82 GND, 83 GND, 84 GND, 89 GND, 90 GND, 91 RSVD, 92 GND, 93 GND, 94 GND, 95 RSVD, 96 GND, 97 GND, 98 GND, 99 GND, 100 GND, 101 RSVD, 102 GND, 103 GND, 104 GND, 105 GND, 106 GND, 108 GND, 109 GND, 110 GND, 111 GND, 112 GND, 113 RSVD, 114 GND, 115 RSVD, 116 GND, 117 GND, 118 GND, 120 GND, 121 GND, 122 GND, 123 GND, 124 GND, 125 GND, 126 GND, 128 GND, 129 GND, 130 GND, 131 GND, 132 GND, 133 GND, 134 RSVD, 141 GND, 142 GND, 148 GND, 152 RSVD, 153 GND, 154 GND, 157 GND, 158 GND, 159 RSVD, 161 RSVD, 162 RSVD, 167 GND, 172 RSVD, 174 GND, 176 RSVD, 177 GND, 178 GND, 181 GND, 184 GND, 187 GND, 191 GND, 192 RSVD, 193 RSVD, 194 RSVD, 195 RSVD, 196 GND, 197 RSVD, 198 RSVD, 199 RSVD, 200 RSVD, 201 RSVD, 202 GND, 203 GND, 204 GND, 205 GND, 206 GND, 207 GND, 208 GND, 209 RSVD, 210 RSVD, 211 RSVD, 212 RSVD, 213 RSVD, 214 GND, 215 GND, 216 GND, 217 GND, 218 GND, 219 GND, 220 GND, 221 GND, 222 GND, 223 GND, 224 GND, 225 GND, 226 GND, 227 GND, 228 GND, 229 GND, 230 GND, 231 GND, 232 GND, 233 GND, 234 GND, 235 GND, 236 GND, 237 GND, 238 GND, 239 GND, 240 GND, 241 GND, 242 GND, 243 GND, 244 GND, 245 GND, 246 GND, 247 GND, 248 GND, 249 GND, 250 GND, 251 GND, 252 GND, 253 GND, 254 GND, 255 GND, 256 GND, 257 GND, 258 GND, 259 GND, 260 GND, 261 GND, 262 GND, 263 GND, 264 GND, 265 GND, 266 GND, 267 GND, 268 GND, 269 GND, 270 GND, 271 GND, 272 GND, 273 GND, 274 GND, 275 GND, 276 GND, 277 GND, 278 GND, 279 GND, 280 GND, 281 GND, 282 GND, 283 GND, 284 GND, 285 GND, 286 GND, 287 GND, 288 GND, 289 GND, 290 GND, 291 GND, 292 GND, 293 GND, 294 GND, 295 GND, 296 GND, 297 GND, 298 GND, 299 GND
part A text: part1; SPI; BT-UART; UART-DBG; ANTENNA; UART; SIMCARD; PCM; SDIO; USB3; I2C; PCIe
part B text: part2

## CELL_M08-R_LCC42
designator U?, comment M08-R  (value not drawn)
GSM, 850/900/1800/1900, GPRS, USSD, UART, 3.45~4.25V; MANF: QUECTEL; PARAM2: 3.45~4.25VCC, 1.8/3VSIM; PARAM: 850/900/1800/1900, GPRS, USSD, UART/USB; MANF_P#: M08-R; VALUE: M08-R; PACKAGE: LCC-42 17.6x15.7x2.4mm
footprint CELL_LCC42_M08R (LCC-42 17.6x15.7x2.4mm. M08-R)
pins: 1 TXD (out), 2 RXD (in), 3 RTS (in), 4 CTS (out), 5 DCD (out), 6 DTR (in), 7 RI (out), 8 GND (power), 9 MICP (in), 10 MICN (in), 11 SPKP (out), 12 SPKN (out), 13 GND (power), 14 SIM_PRESENT (in), 15 SIM_DATA (io), 16 SIM_CLK (out), 17 SIM_RST (out), 18 SIM_VDD (power), 19 GND (power), 20 NC, 21 GND (power), 22 TXD_AUX (out), 23 RXD_AUX (in), 24 RESERVED, 25 DBG_TXD (out), 26 DBG_RXD (in), 27 GND (power), 28 VRTC (power), 29 RFTXMON (out), 30 GND (power), 31 GND (power), 32 RF_ANT (io), 33 GND (power), 34 VBAT (power), 35 VBAT (power), 36 GND (power), 37 GND (power), 38 ADC (in), 39 PWRKEY (in), 40 VDD_EXT (power), 41 NETLIGHT (out), 42 STATUS (out)
text: SPI; DBG_UART; UART-AUX; ANTENNA; UART; SOUND; SIMCARD

## CELL_M65_LCC44
designator U?, comment M65  (value not drawn)
GSM, 850/900/1800/1900, GPRS, USSD, UART, 3.45~4.25V; MANF: QUECTEL; PARAM2: 3.45~4.25VCC, 1.8/3VSIM; PARAM: 850/900/1800/1900, GPRS, USSD, UART/USB; MANF_P#: M65; VALUE: M65; PACKAGE: LCC-44 17.7x15.8x2.4mm
footprint CELL_LCC44_M65 (LCC-44, 17.7x15.8x2.4mm)
pins: 1 AGND (power), 2 SPK2P (out), 3 MICP (in), 4 MICN (in), 5 SPK1P (out), 6 SPK1N (out), 7 PWRKEY (in), 8 AVDD (power), 9 ADC0 (in), 10 SIM_GND (power), 11 SIM_DATA (io), 12 SIM_RST (out), 13 SIM_CLK (out), 14 SIM_VDD (power), 15 RESERVED, 16 NETLIGHT (out), 17 TXD (out), 18 RXD (in), 19 DTR/SIM_PRESENCE (in), 20 RI (out), 21 DCD (out), 22 CTS (out), 23 RTS (in), 24 VDD_EXT (power), 25 RFTXMON (out), 26 RESERVED, 27 GND (power), 28 RXD_AUX (in), 29 TXD_AUX (out), 30 PCM_CLK (out), 31 PCM_SYNC (out), 32 PCM_IN (in), 33 PCM_OUT (out), 34 GND (power), 35 RF_ANT (io), 36 GND (power), 37 GND (power), 38 DBG_RXD (in), 39 DBG_TXD (out), 40 GND (power), 41 GND (power), 42 VBAT (power), 43 VBAT (power), 44 VRTC (power)
text: DBG_UART; UART-AUX; ANTENNA; UART; PCM; SIMCARD; SOUND

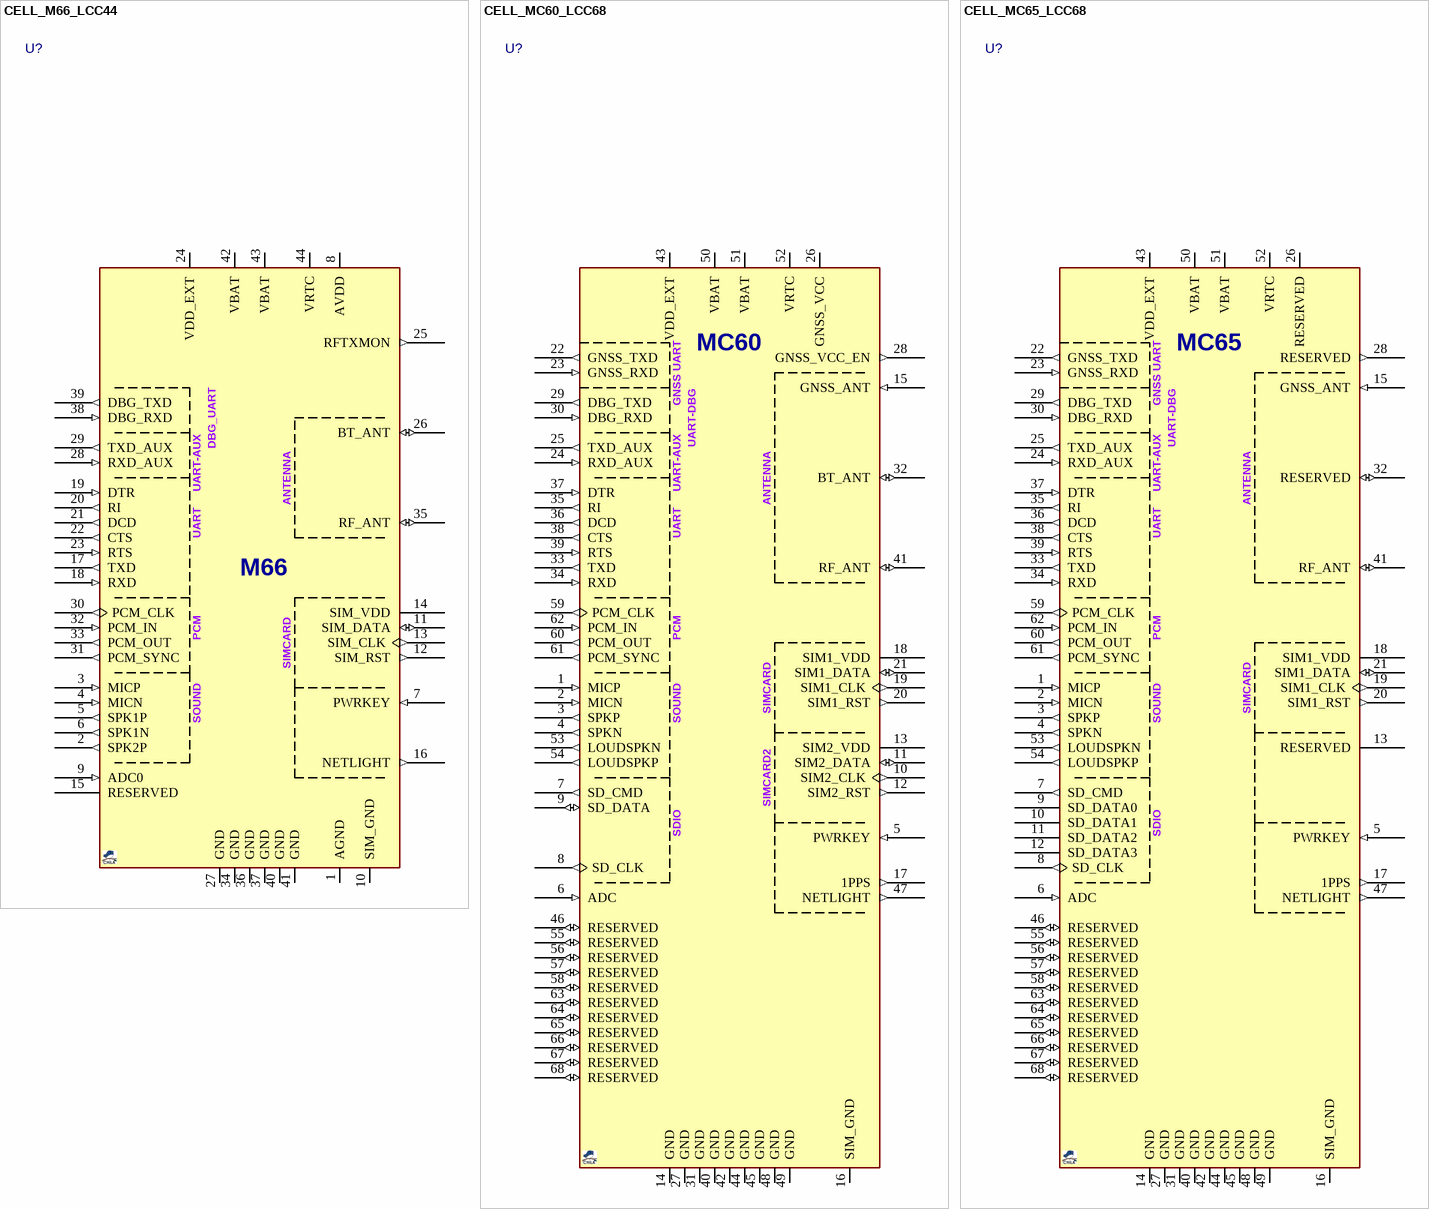
[diagram p7: symbols CELL_M66_LCC44 to CELL_MC65_LCC68]

## CELL_M66_LCC44
designator U?, comment M66  (value not drawn)
GSM, 850/900/1800/1900, GPRS, USSD, UART, 3.45~4.25V; MANF: QUECTEL; PARAM2: 3.45~4.25VCC, 1.8/3VSIM; PARAM: 850/900/1800/1900, GPRS, USSD, UART/USB; MANF_P#: M66; VALUE: M66; PACKAGE: LCC-44 17.7x15.8x2.4mm
footprint CELL_LCC44_M65 (LCC-44, 17.7x15.8x2.4mm)
pins: 1 AGND (power), 2 SPK2P (out), 3 MICP (in), 4 MICN (in), 5 SPK1P (out), 6 SPK1N (out), 7 PWRKEY (in), 8 AVDD (power), 9 ADC0 (in), 10 SIM_GND (power), 11 SIM_DATA (io), 12 SIM_RST (out), 13 SIM_CLK (out), 14 SIM_VDD (power), 15 RESERVED, 16 NETLIGHT (out), 17 TXD (out), 18 RXD (in), 19 DTR (in), 20 RI (out), 21 DCD (out), 22 CTS (out), 23 RTS (in), 24 VDD_EXT (power), 25 RFTXMON (out), 26 BT_ANT (io), 27 GND (power), 28 RXD_AUX (in), 29 TXD_AUX (out), 30 PCM_CLK (out), 31 PCM_SYNC (out), 32 PCM_IN (in), 33 PCM_OUT (out), 34 GND (power), 35 RF_ANT (io), 36 GND (power), 37 GND (power), 38 DBG_RXD (in), 39 DBG_TXD (out), 40 GND (power), 41 GND (power), 42 VBAT (power), 43 VBAT (power), 44 VRTC (power)
text: DBG_UART; UART-AUX; ANTENNA; UART; PCM; SIMCARD; SOUND

## CELL_MC60_LCC68
designator U?, comment MC60  (value not drawn)
GSM, 850/900/1800/1900, GPRS, USSD, UART, 3.3~4.6V; MANF: QUECTEL; PARAM2: 3.3~4.6VCC, 1.8/3VSIM; PARAM: 850/900/1800/1900, GPRS, USSD, UART/USB; MANF_P#: MC60; VALUE: MC60; PACKAGE: LCC-68, 18.7x16x2.1mm
footprint CELL_LCC68_MC60 (LCC-68, 18.7x16x2.1mm)
pins: 1 MICP (in), 2 MICN (in), 3 SPKP (out), 4 SPKN (out), 5 PWRKEY (in), 6 ADC (in), 7 SD_CMD (out), 8 SD_CLK (out), 9 SD_DATA (io), 10 SIM2_CLK (out), 11 SIM2_DATA (io), 12 SIM2_RST (out), 13 SIM2_VDD (power), 14 GND (power), 15 GNSS_ANT (in), 16 SIM_GND (power), 17 1PPS (out), 18 SIM1_VDD (power), 19 SIM1_CLK (out), 20 SIM1_RST (out), 21 SIM1_DATA (io), 22 GNSS_TXD (out), 23 GNSS_RXD (in), 24 RXD_AUX (in), 25 TXD_AUX (out), 26 GNSS_VCC (power), 27 GND (power), 28 GNSS_VCC_EN (out), 29 DBG_TXD (out), 30 DBG_RXD (in), 31 GND (power), 32 BT_ANT (io), 33 TXD (out), 34 RXD (in), 35 RI (out), 36 DCD (out), 37 DTR (in), 38 CTS (out), 39 RTS (in), 40 GND (power), 41 RF_ANT (io), 42 GND (power), 43 VDD_EXT (power), 44 GND (power), 45 GND (power), 46 RESERVED (io), 47 NETLIGHT (out), 48 GND (power), 49 GND (power), 50 VBAT (power), 51 VBAT (power), 52 VRTC (power), 53 LOUDSPKN (out), 54 LOUDSPKP (out), 55 RESERVED (io), 56 RESERVED (io), 57 RESERVED (io), 58 RESERVED (io), 59 PCM_CLK (out), 60 PCM_OUT (out), 61 PCM_SYNC (out), 62 PCM_IN (in), 63 RESERVED (io), 64 RESERVED (io), 65 RESERVED (io), 66 RESERVED (io), 67 RESERVED (io), 68 RESERVED (io)
text: GNSS UART; UART-DBG; UART-AUX; ANTENNA; UART; PCM; SIMCARD; SOUND; SIMCARD2; SDIO

## CELL_MC65_LCC68
designator U?, comment MC65  (value not drawn)
GSM, 850/900/1800/1900, GPRS, USSD, UART, 3.45~4.25V; MANF: QUECTEL; PARAM2: 3.45~4.25VCC, 1.8/3VSIM; PARAM: 850/900/1800/1900, GPRS, USSD, UART/USB; MANF_P#: MC65; VALUE: MC65; PACKAGE: LCC-68, 18.7x16x2.1mm
footprint CELL_LCC68_MC60 (LCC-68, 18.7x16x2.1mm)
pins: 1 MICP (in), 2 MICN (in), 3 SPKP (out), 4 SPKN (out), 5 PWRKEY (in), 6 ADC (in), 7 SD_CMD (out), 8 SD_CLK (out), 9 SD_DATA0, 10 SD_DATA1, 11 SD_DATA2, 12 SD_DATA3, 13 RESERVED (power), 14 GND (power), 15 GNSS_ANT (in), 16 SIM_GND (power), 17 1PPS (out), 18 SIM1_VDD (power), 19 SIM1_CLK (out), 20 SIM1_RST (out), 21 SIM1_DATA (io), 22 GNSS_TXD (out), 23 GNSS_RXD (in), 24 RXD_AUX (in), 25 TXD_AUX (out), 26 RESERVED (power), 27 GND (power), 28 RESERVED (out), 29 DBG_TXD (out), 30 DBG_RXD (in), 31 GND (power), 32 RESERVED (io), 33 TXD (out), 34 RXD (in), 35 RI (out), 36 DCD (out), 37 DTR (in), 38 CTS (out), 39 RTS (in), 40 GND (power), 41 RF_ANT (io), 42 GND (power), 43 VDD_EXT (power), 44 GND (power), 45 GND (power), 46 RESERVED (io), 47 NETLIGHT (out), 48 GND (power), 49 GND (power), 50 VBAT (power), 51 VBAT (power), 52 VRTC (power), 53 LOUDSPKN (out), 54 LOUDSPKP (out), 55 RESERVED (io), 56 RESERVED (io), 57 RESERVED (io), 58 RESERVED (io), 59 PCM_CLK (out), 60 PCM_OUT (out), 61 PCM_SYNC (out), 62 PCM_IN (in), 63 RESERVED (io), 64 RESERVED (io), 65 RESERVED (io), 66 RESERVED (io), 67 RESERVED (io), 68 RESERVED (io)
text: GNSS UART; UART-DBG; UART-AUX; ANTENNA; UART; PCM; SIMCARD; SOUND; SDIO

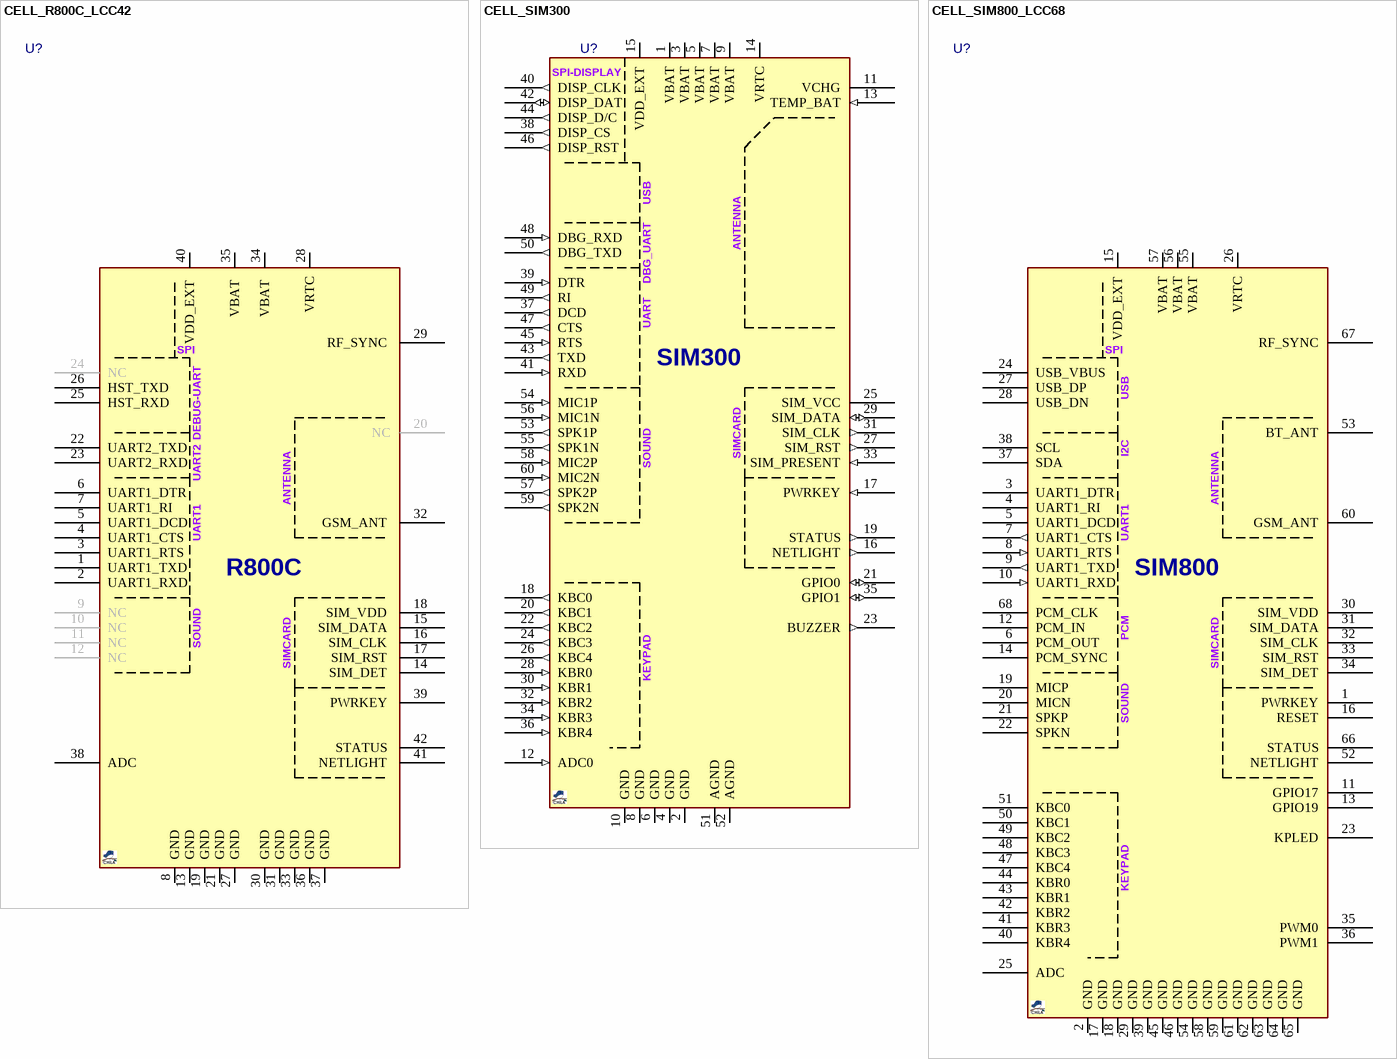
[diagram p8: symbols CELL_R800C_LCC42 to CELL_SIM800_LCC68]

## CELL_R800C_LCC42
designator U?, comment R800C  (value not drawn)
GSM, 850/900/1800/1900, GPRS, USSD, UART/USB, 3.4~4.4V; MANF: SIMCom; PARAM2: 3.4~4.4VCC, 1.8/3VSIM; MANF_P#: R800C; PARAM: 850/900/1800/1900, GPRS, USSD, UART/USB; VALUE: R800C; PACKAGE: LCC-42 17.6x15.7x2.3mm
footprint CELL_LCC42_SIM800C (LCC-42 17.6x15.7x2.3mm)
pins: 1 UART1_TXD , 2 UART1_RXD , 3 UART1_RTS , 4 UART1_CTS , 5 UART1_DCD , 6 UART1_DTR , 7 UART1_RI , 8 GND, 9 NC, 10 NC, 11 NC, 12 NC, 13 GND, 14 SIM_DET , 15 SIM_DATA , 16 SIM_CLK , 17 SIM_RST , 18 SIM_VDD , 19 GND, 20 NC, 21 GND, 22 UART2_TXD , 23 UART2_RXD , 24 NC, 25 HST_RXD, 26 HST_TXD, 27 GND, 28 VRTC, 29 RF_SYNC , 30 GND, 31 GND, 32 GSM_ANT , 33 GND, 34 VBAT , 35 VBAT , 36 GND, 37 GND, 38 ADC , 39 PWRKEY , 40 VDD_EXT , 41 NETLIGHT , 42 STATUS 
text: SPI; DEBUG-UART; UART2; ANTENNA; UART1; SOUND; SIMCARD

## CELL_SIM300
designator U?, comment SIM300  (value not drawn)
GSM, 900/1800/1900, GPRS, UART, 3.4~4.5V; MANF: SIMCom; PARAM2: 3.4~4.5VCC, 1.8/3VSIM; MANF_P#: SIM300; VALUE: SIM300; PACKAGE: SIM300 34x40mm
footprint CELL_SIM300 (SIM300 34x40mm)
pins: 1 VBAT (power), 2 GND (power), 3 VBAT (power), 4 GND (power), 5 VBAT (power), 6 GND (power), 7 VBAT (power), 8 GND (power), 9 VBAT (power), 10 GND (power), 11 VCHG (power), 12 ADC0 (in), 13 TEMP_BAT (in), 14 VRTC, 15 VDD_EXT, 16 NETLIGHT (out), 17 PWRKEY (in), 18 KBC0 (out), 19 STATUS (out), 20 KBC1 (out), 21 GPIO0 (io), 22 KBC2 (out), 23 BUZZER (out), 24 KBC3 (out), 25 SIM_VCC (power), 26 KBC4 (out), 27 SIM_RST (out), 28 KBR0 (in), 29 SIM_DATA (io), 30 KBR1 (in), 31 SIM_CLK (out), 32 KBR2 (in), 33 SIM_PRESENT (in), 34 KBR3 (in), 35 GPIO1 (io), 36 KBR4 (in), 37 DCD (out), 38 DISP_CS (out), 39 DTR (in), 40 DISP_CLK (out), 41 RXD (in), 42 DISP_DAT (io), 43 TXD (out), 44 DISP_D/C (out), 45 RTS (in), 46 DISP_RST (out), 47 CTS (out), 48 DBG_RXD (in), 49 RI (out), 50 DBG_TXD (out), 51 AGND (power), 52 AGND (power), 53 SPK1P (out), 54 MIC1P (in), 55 SPK1N (out), 56 MIC1N (in), 57 SPK2P (out), 58 MIC2P (in), 59 SPK2N (out), 60 MIC2N (in)
text: SPI-DISPLAY; USB; ANTENNA; DBG_UART; UART; SIMCARD; SOUND; KEYPAD

## CELL_SIM800_LCC68
designator U?, comment SIM800  (value not drawn)
GSM, 850/900/1800/1900, GPRS, USSD, UART/USB, 3.4~4.4V; MANF: SIMCom; PARAM2: 3.4~4.4VCC, 1.8/3VSIM; MANF_P#: SIM800; PARAM: 850/900/1800/1900, GPRS, USSD, UART/USB; VALUE: SIM800; PACKAGE: LCC-68 24x24x3mm
footprint CELL_LCC68_SIM800 (LCC-68 24x24x3mm)
pins: 1 PWRKEY, 2 GND, 3 UART1_DTR, 4 UART1_RI, 5 UART1_DCD, 6 PCM_OUT, 7 UART1_CTS (out), 8 UART1_RTS (in), 9 UART1_TXD (out), 10 UART1_RXD (in), 11 GPIO17, 12 PCM_IN, 13 GPIO19, 14 PCM_SYNC, 15 VDD_EXT, 16 RESET, 17 GND, 18 GND, 19 MICP, 20 MICN, 21 SPKP, 22 SPKN, 23 KPLED, 24 USB_VBUS, 25 ADC, 26 VRTC, 27 USB_DP, 28 USB_DN, 29 GND, 30 SIM_VDD, 31 SIM_DATA, 32 SIM_CLK, 33 SIM_RST, 34 SIM_DET, 35 PWM0, 36 PWM1, 37 SDA, 38 SCL, 39 GND, 40 KBR4, 41 KBR3, 42 KBR2, 43 KBR1, 44 KBR0, 45 GND, 46 GND, 47 KBC4, 48 KBC3, 49 KBC2, 50 KBC1, 51 KBC0, 52 NETLIGHT, 53 BT_ANT, 54 GND, 55 VBAT, 56 VBAT, 57 VBAT, 58 GND, 59 GND, 60 GSM_ANT, 61 GND, 62 GND, 63 GND, 64 GND, 65 GND, 66 STATUS, 67 RF_SYNC, 68 PCM_CLK
text: SPI; USB; I2C; ANTENNA; UART1; PCM; SIMCARD; SOUND; KEYPAD

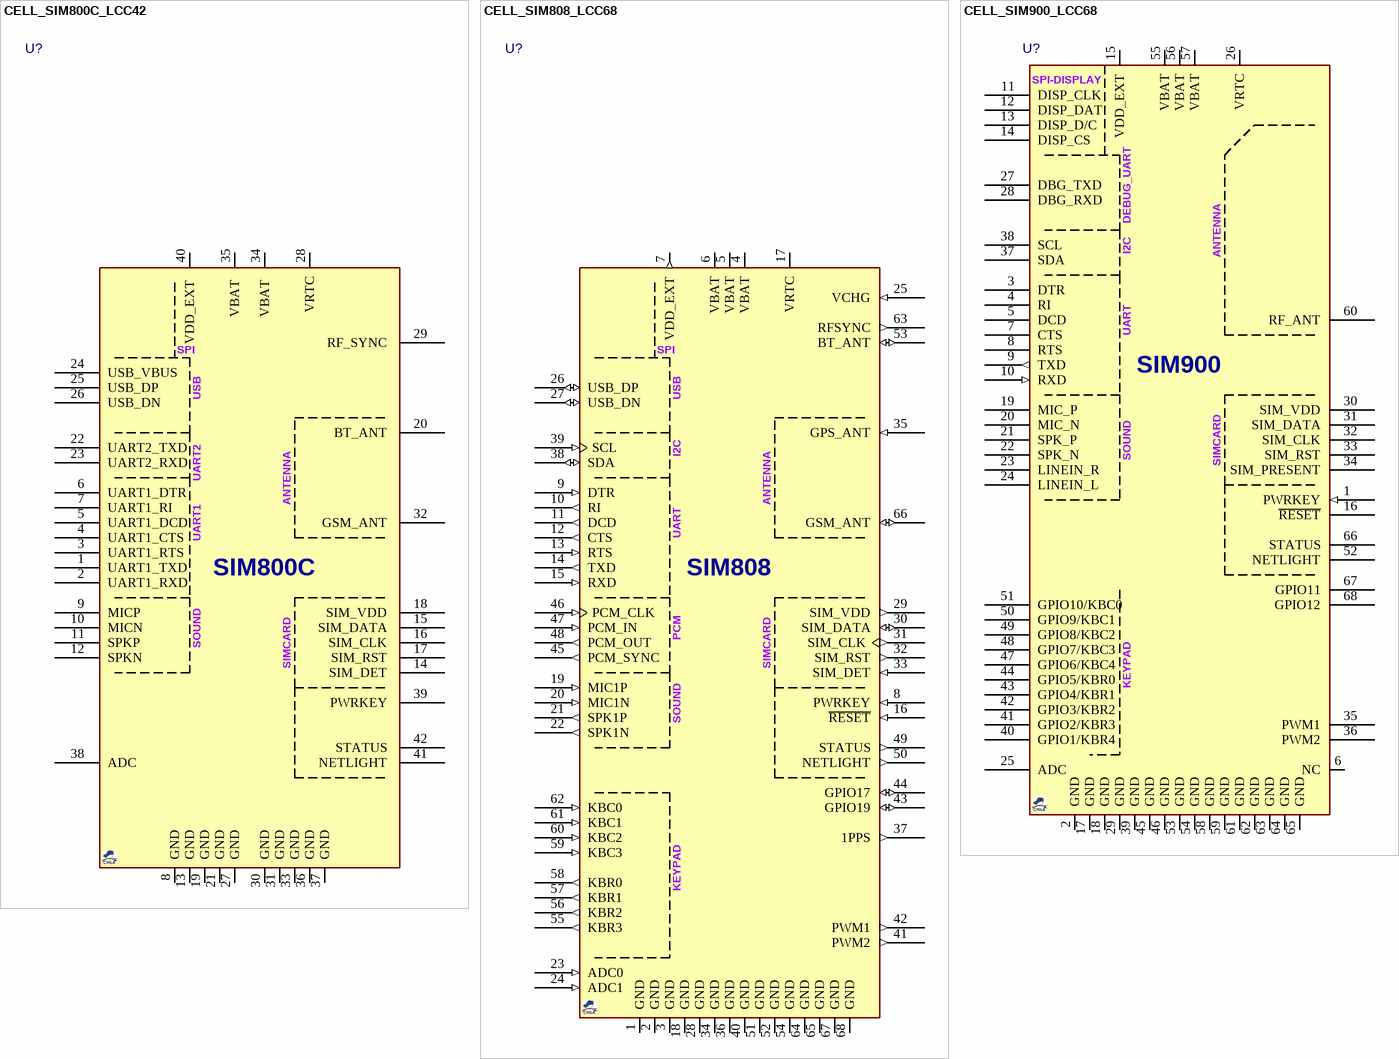
[diagram p9: symbols CELL_SIM800C_LCC42 to CELL_SIM900_LCC68]

## CELL_SIM800C_LCC42
designator U?, comment SIM800C  (value not drawn)
GSM, 850/900/1800/1900, GPRS, USSD, UART/USB, 3.4~4.4V; MANF: SIMCom; PARAM2: 3.4~4.4VCC, 1.8/3VSIM; MANF_P#: SIM800C; PARAM: 850/900/1800/1900, GPRS, USSD, UART/USB; VALUE: SIM800C; PACKAGE: LCC-42 17.6x15.7x2.3mm
footprint CELL_LCC42_SIM800C (LCC-42 17.6x15.7x2.3mm)
pins: 1 UART1_TXD , 2 UART1_RXD , 3 UART1_RTS , 4 UART1_CTS , 5 UART1_DCD , 6 UART1_DTR , 7 UART1_RI , 8 GND, 9 MICP , 10 MICN , 11 SPKP , 12 SPKN , 13 GND, 14 SIM_DET , 15 SIM_DATA , 16 SIM_CLK , 17 SIM_RST , 18 SIM_VDD , 19 GND, 20 BT_ANT , 21 GND, 22 UART2_TXD , 23 UART2_RXD , 24 USB_VBUS , 25 USB_DP , 26 USB_DN , 27 GND, 28 VRTC, 29 RF_SYNC , 30 GND, 31 GND, 32 GSM_ANT , 33 GND, 34 VBAT , 35 VBAT , 36 GND, 37 GND, 38 ADC , 39 PWRKEY , 40 VDD_EXT , 41 NETLIGHT , 42 STATUS 
text: SPI; USB; UART2; ANTENNA; UART1; SOUND; SIMCARD

## CELL_SIM808_LCC68
designator U?, comment SIM808  (value not drawn)
GSM, 850/900/1800/1900, GPRS, USSD, GPS+BT, UART/USB, 3.4~4.4V; MANF: SIMCom; MANF_P#: SIM800; PARAM2: 3.4~4.4VCC, 1.8/3VSIM; PARAM: 850/900/1800/1900, GPRS, USSD, UART/USB; VALUE: SIM808; PACKAGE: LCC-68 24x24x2.6mm
footprint CELL_LCC68_SIM808 (GSM Module, SIM808, 1mm pitch, LCC-68 24x24x2.6mm)
pins: 1 GND (power), 2 GND (power), 3 GND (power), 4 VBAT (power), 5 VBAT (power), 6 VBAT (power), 7 VDD_EXT (out), 8 PWRKEY (in), 9 DTR (in), 10 RI (out), 11 DCD (out), 12 CTS (out), 13 RTS (in), 14 TXD (out), 15 RXD (in), 16 ~{RESET} (in), 17 VRTC, 18 GND (power), 19 MIC1P (in), 20 MIC1N (in), 21 SPK1P (out), 22 SPK1N (out), 23 ADC0 (in), 24 ADC1 (in), 25 VCHG (in), 26 USB_DP (io), 27 USB_DN (io), 28 GND (power), 29 SIM_VDD (out), 30 SIM_DATA (io), 31 SIM_CLK (out), 32 SIM_RST (out), 33 SIM_DET (in), 34 GND (power), 35 GPS_ANT (in), 36 GND (power), 37 1PPS (out), 38 SDA (io), 39 SCL (in), 40 GND (power), 41 PWM2 (out), 42 PWM1 (out), 43 GPIO19 (io), 44 GPIO17 (io), 45 PCM_SYNC (out), 46 PCM_CLK (in), 47 PCM_IN (in), 48 PCM_OUT (out), 49 STATUS (out), 50 NETLIGHT (out), 51 GND (power), 52 GND (power), 53 BT_ANT (io), 54 GND (power), 55 KBR3 (out), 56 KBR2 (out), 57 KBR1 (out), 58 KBR0 (out), 59 KBC3 (in), 60 KBC2 (in), 61 KBC1 (in), 62 KBC0 (in), 63 RFSYNC (out), 64 GND (power), 65 GND (power), 66 GSM_ANT (io), 67 GND (power), 68 GND (power)
text: SPI; USB; I2C; ANTENNA; UART; PCM; SIMCARD; SOUND; KEYPAD

## CELL_SIM900_LCC68
designator U?, comment SIM900  (value not drawn)
GSM, 850/900/1800/1900, GPRS, USSD, UART, 3.2~4.8V; MANF: SIMCom; PARAM2: 3.2~4.8VCC, 1.8/3VSIM; MANF_P#: SIM900; PARAM: 850/900/1800/1900, GPRS, USSD, UART; VALUE: SIM900; PACKAGE: LCC-68 24x24x3mm
footprint CELL_LCC68_SIM900 (LCC-68 24x24x3mm)
pins: 1 PWRKEY (in), 2 GND (power), 3 DTR (power), 4 RI (power), 5 DCD (power), 6 NC, 7 CTS (power), 8 RTS (power), 9 TXD (out), 10 RXD (in), 11 DISP_CLK (power), 12 DISP_DAT (power), 13 DISP_D/C (power), 14 DISP_CS (power), 15 VDD_EXT (power), 16 ~{RESET} (power), 17 GND (power), 18 GND (power), 19 MIC_P (power), 20 MIC_N (power), 21 SPK_P (power), 22 SPK_N (power), 23 LINEIN_R (power), 24 LINEIN_L (power), 25 ADC (power), 26 VRTC (power), 27 DBG_TXD (power), 28 DBG_RXD (power), 29 GND (power), 30 SIM_VDD (power), 31 SIM_DATA (power), 32 SIM_CLK (power), 33 SIM_RST (power), 34 SIM_PRESENT (power), 35 PWM1 (power), 36 PWM2 (power), 37 SDA (power), 38 SCL (power), 39 GND (power), 40 GPIO1/KBR4 (power), 41 GPIO2/KBR3 (power), 42 GPIO3/KBR2 (power), 43 GPIO4/KBR1 (power), 44 GPIO5/KBR0 (power), 45 GND (power), 46 GND (power), 47 GPIO6/KBC4 (power), 48 GPIO7/KBC3 (power), 49 GPIO8/KBC2 (power), 50 GPIO9/KBC1 (power), 51 GPIO10/KBC0 (power), 52 NETLIGHT (power), 53 GND (power), 54 GND (power), 55 VBAT (power), 56 VBAT (power), 57 VBAT (power), 58 GND (power), 59 GND (power), 60 RF_ANT (power), 61 GND (power), 62 GND (power), 63 GND (power), 64 GND (power), 65 GND (power), 66 STATUS (power), 67 GPIO11 (power), 68 GPIO12 (power)
text: SPI-DISPLAY; DEBUG_UART; ANTENNA; I2C; UART; SOUND; SIMCARD; KEYPAD

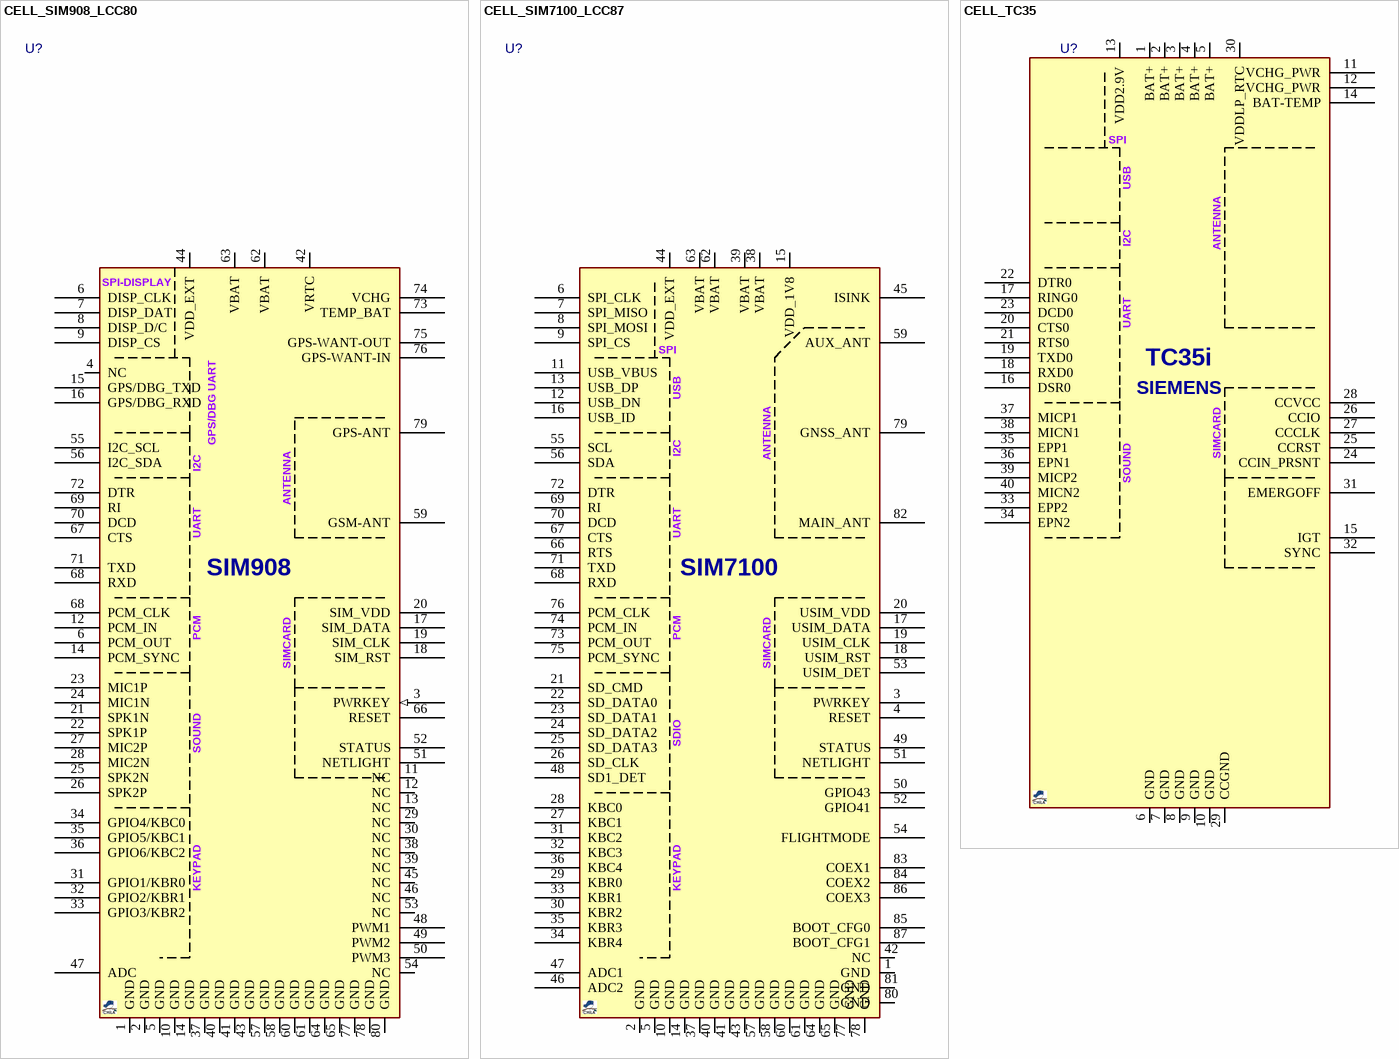
[diagram p10: symbols CELL_SIM908_LCC80 to CELL_TC35]

## CELL_SIM908_LCC80
designator U?, comment SIM908  (value not drawn)
GSM, 850/900/1800/1900, GPS, GPRS, USSD, UART, 3.2~4.8V; MANF: SIMCom; PARAM2: 3.2~4.8VCC; MANF_P#: SIM908; PARAM: 850/900/1800/1900, GPS, GPRS, USSD, UART; VALUE: SIM908; PACKAGE: LCC-80 30x30x3.2mm
footprint CELL_LCC80_SIM908 (LCC-80 30x30x3.2mm)
pins: 1 GND (power), 2 GND (power), 3 PWRKEY (in), 4 NC, 5 GND (power), 6 PCM_OUT, 6 DISP_CLK, 7 DISP_DAT, 8 DISP_D/C, 9 DISP_CS, 10 GND (power), 11 NC, 12 PCM_IN, 12 NC, 13 NC, 14 PCM_SYNC, 14 GND (power), 15 GPS/DBG_TXD, 16 GPS/DBG_RXD, 17 SIM_DATA, 18 SIM_RST, 19 SIM_CLK, 20 SIM_VDD, 21 SPK1N, 22 SPK1P, 23 MIC1P, 24 MIC1N, 25 SPK2N, 26 SPK2P, 27 MIC2P, 28 MIC2N, 29 NC, 30 NC, 31 GPIO1/KBR0, 32 GPIO2/KBR1, 33 GPIO3/KBR2, 34 GPIO4/KBC0, 35 GPIO5/KBC1, 36 GPIO6/KBC2, 37 GND (power), 38 NC, 39 NC, 40 GND (power), 41 GND (power), 42 VRTC, 43 GND (power), 44 VDD_EXT (power), 45 NC, 46 NC, 47 ADC, 48 PWM1, 49 PWM2, 50 PWM3, 51 NETLIGHT, 52 STATUS, 53 NC, 54 NC, 55 I2C_SCL, 56 I2C_SDA, 57 GND (power), 58 GND (power), 59 GSM-ANT, 60 GND (power), 61 GND (power), 62 VBAT (power), 63 VBAT (power), 64 GND (power), 65 GND (power), 66 RESET, 67 CTS, 68 PCM_CLK, 68 RXD, 69 RI, 70 DCD, 71 TXD, 72 DTR, 73 TEMP_BAT, 74 VCHG, 75 GPS-WANT-OUT, 76 GPS-WANT-IN, 77 GND (power), 78 GND, 79 GPS-ANT, 80 GND (power)
text: SPI-DISPLAY; GPS/DBG UART; I2C; ANTENNA; UART; PCM; SIMCARD; SOUND; KEYPAD

## CELL_SIM7100_LCC87
designator U?, comment SIM7100  (value not drawn)
GSM, 850/900/1800/1900, 4G, GPS, UART/USB2.0/SPI, 3.4~4.2V; MANF: SIMCom; MANF_P#: SIM7100C; PARAM2: 3.4~4.2VCC; PARAM: 850/900/1800/1900, 4G, GPS, UART/USB2.0/SPI; VALUE: SIM7100; PACKAGE: LCC-87 30x30x3mm
footprint CELL_LCC87_SIM7100 (SIM7100 SIM5360 LCC-87 pitch:1mm 30x30x3mm)
pins: 1 GND, 2 GND, 3 PWRKEY, 4 RESET, 5 GND, 6 SPI_CLK, 7 SPI_MISO, 8 SPI_MOSI, 9 SPI_CS, 10 GND, 11 USB_VBUS, 12 USB_DN, 13 USB_DP, 14 GND, 15 VDD_1V8, 16 USB_ID, 17 USIM_DATA, 18 USIM_RST, 19 USIM_CLK, 20 USIM_VDD, 21 SD_CMD, 22 SD_DATA0, 23 SD_DATA1, 24 SD_DATA2, 25 SD_DATA3, 26 SD_CLK, 27 KBC1, 28 KBC0, 29 KBR0, 30 KBR2, 31 KBC2, 32 KBC3, 33 KBR1, 34 KBR4, 35 KBR3, 36 KBC4, 37 GND, 38 VBAT, 39 VBAT, 40 GND, 41 GND, 42 NC, 43 GND, 44 VDD_EXT, 45 ISINK, 46 ADC2, 47 ADC1, 48 SD1_DET, 49 STATUS, 50 GPIO43, 51 NETLIGHT, 52 GPIO41, 53 USIM_DET, 54 FLIGHTMODE, 55 SCL, 56 SDA, 57 GND, 58 GND, 59 AUX_ANT, 60 GND, 61 GND, 62 VBAT, 63 VBAT, 64 GND, 65 GND, 66 RTS, 67 CTS, 68 RXD, 69 RI, 70 DCD, 71 TXD, 72 DTR, 73 PCM_OUT, 74 PCM_IN, 75 PCM_SYNC, 76 PCM_CLK, 77 GND, 78 GND, 79 GNSS_ANT, 80 GND, 81 GND, 82 MAIN_ANT, 83 COEX1, 84 COEX2, 85 BOOT_CFG0, 86 COEX3, 87 BOOT_CFG1
text: SPI; USB; ANTENNA; I2C; UART; PCM; SIMCARD; SDIO; KEYPAD

## CELL_TC35
designator U?, comment TC35  (value not drawn)
GSM, 900/1800 UART; MANF: SIEMENS; MANF_P#: TC35i; PARAM2: VBAT3.3~5.5V, PWR5.5~8V; VALUE: TC35; PACKAGE: TC35i 36x54.5x3.6mm
footprint CELL_TC35 (TC35i 36x54.5x3.6mm)
pins: 1 BAT+, 2 BAT+, 3 BAT+, 4 BAT+, 5 BAT+, 6 GND, 7 GND, 8 GND, 9 GND, 10 GND, 11 VCHG_PWR, 12 VCHG_PWR, 13 VDD2.9V, 14 BAT-TEMP, 15 IGT, 16 DSR0, 17 RING0, 18 RXD0, 19 TXD0, 20 CTS0, 21 RTS0, 22 DTR0, 23 DCD0, 24 CCIN_PRSNT, 25 CCRST, 26 CCIO, 27 CCCLK, 28 CCVCC, 29 CCGND, 30 VDDLP_RTC, 31 EMERGOFF, 32 SYNC, 33 EPP2, 34 EPN2, 35 EPP1, 36 EPN1, 37 MICP1, 38 MICN1, 39 MICP2, 40 MICN2
text: SPI; USB; ANTENNA; I2C; UART; SIMCARD; SOUND